# Altium integrated library Altera APEX 20KE.IntLib: 235 symbols (part 6 of 49)
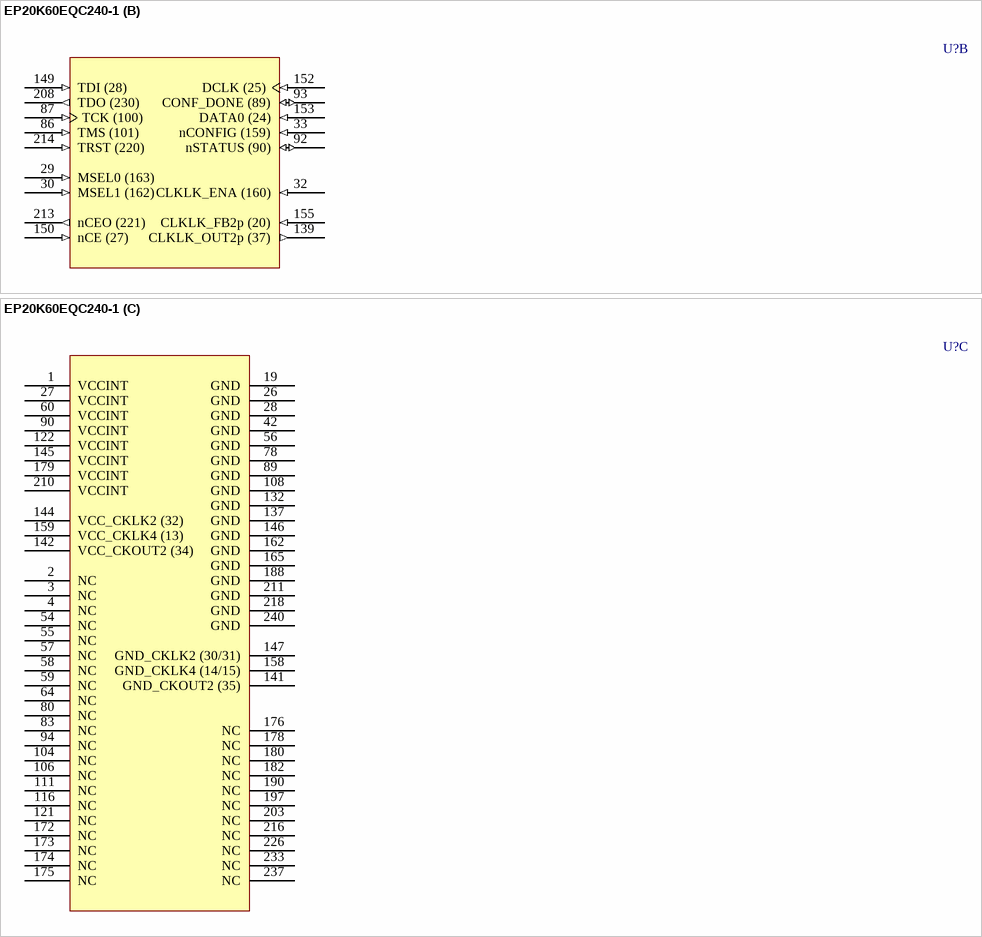
[diagram p404: symbol EP20K60EQC240-1]

## EP20K60EQC240-1
designator U?
APEX 20K60E PLD, 240-Pin PQFP, Commercial Grade, Speed Grade 1; Published: 17-Jul-2002; LatestRevisionDate: 13-Apr-2006; LatestRevisionNote: IPC-7351 Footprint Added.; DatasheetVersion: Mar-2004; PackageVersion: ver15.4, Dec-2008; PackageReference: PQFP240; Publisher: Altium Limited; PackageDescription: 240-Pin Plastic Quad Flat Pack (PQFP240) - Wire Bond; Supplier 1: Digi-Key; Supplier Part Number 1: EP20K60EQC240-1-ND; Code_JEDEC: MS-029-GA; ComponentLink1Description: Manufacturer Link; ComponentLink1URL: http://www.altera.com/products/devices/apex/apx-index.html; ComponentLink2Description: Datasheet; ComponentLink2URL: http://www.altera.com/literature/ds/apex.pdf
footprint PQFP240_N (Shrink QFP, 240-Leads, Body 32x32mm, Pitch 0.5mm, IPC Medium Density)
footprint PQFP240_L (Shrink QFP, 240-Leads, Body 32x32mm, Pitch 0.5mm, IPC High Density)
footprint PQFP240_M (Shrink QFP, 240-Leads, Body 32x32mm, Pitch 0.5mm, IPC Low Density)
3D model EP20K60E-PQFP240 (240-Pin Plastic Quad Flat Pack (PQFP240) - Wire Bond)
part A pins: 5 IO (185) (io), 6 IO (184) (io), 7 IO (183) (io), 8 IO (182) (io), 9 IO (180) (io), 10 IO (179) (io), 11 IO (178) (io), 12 VCCIO3 (175) (power), 13 IO (177) (io), 14 IO (176) (io), 15 IO (174) (io), 16 IO (173) (io), 17 IO (172) (io), 18 IO (171) (io), 20 IO (170) (io), 21 IO (168) (io), 22 IO (167) (io), 23 IO (166) (io), 24 IO (165) (io), 25 IO (164) (io), 31 CLK1p (161) (in), 34 CLK3p (156) (in), 35 IO/CLK3n (155) (io), 36 IO (154) (io), 37 IO (153) (io), 38 IO (151) (io), 39 IO (150) (io), 40 IO (149) (io), 41 IO (148) (io), 43 IO (147) (io), 44 IO (145) (io), 45 VCCIO5 (112) (power), 46 IO (144) (io), 47 IO (143) (io), 48 IO (142) (io), 49 IO (141) (io), 50 IO (139) (io), 51 IO (138) (io), 52 IO (137) (io), 53 IO (136) (io), 61 IO (128) (io), 62 IO (127) (io), 63 IO (126) (io), 65 IO (124) (io), 66 IO (122) (io), 67 VCCIO4 (146) (power), 68 IO (121) (io), 69 IO (120) (io), 70 IO (118) (io), 71 IO (117) (io), 72 IO (116) (io), 73 IO (115) (io), 74 IO (114) (io), 75 IO (113) (io), 76 IO (111) (io), 77 IO (110) (io), 79 IO (109) (io), 81 IO (107) (io), 82 IO (105) (io), 84 IO (103) (io), 85 IO (102) (io), 88 FAST3 (99) (io), 91 FAST4 (91) (io), 95 IO (86) (io), 96 IO (85) (io), 97 VCCIO7 (44) (power), 98 IO (84) (io), 99 IO (83) (io), 100 IO (82) (io), 101 IO (81) (io), 102 IO (80) (io), 103 IO (79) (io), 105 IO (76) (io), 107 IO (74) (io), 109 IO (73) (io), 110 IO (72) (io), 112 IO (70) (io), 113 IO (69) (io), 114 IO (68) (io), 115 IO (66) (io), 117 IO (64) (io), 118 IO (63) (io), 119 IO (62) (io), 120 VCCIO7 (power), 123 IO (54) (io), 124 IO (53) (io), 125 IO (52) (io), 126 IO (51) (io), 127 IO (49) (io), 128 IO (48) (io), 129 IO (47) (io), 130 IO (46) (io), 131 IO (45) (io), 133 IO (43) (io), 134 IO (42) (io), 135 IO/LOCK4 (41) (io), 136 IO (40) (io), 138 IO/LOCK2 (39) (io), 140 IO/CLKLK_OUT2n (36) (io), 143 IO/DEV_OE (33) (io), 148 VCCIO6 (56) (power), 151 CLK2p (26) (in), 154 CLK4p (22) (in), 156 IO/DEV_CLRn (17) (io), 157 IO/CS (16) (io), 160 IO/nCS (12) (io), 161 IO/nRS (10) (io), 163 IO (9) (io), 164 IO/nWS (8) (io), 166 IO/DATA7 (7) (io), 167 IO (6) (io), 168 IO (4) (io), 169 IO/DATA6 (3) (io), 170 IO (2) (io), 171 IO (1) (io), 177 VCCIO1 (228) (power), 181 IO/DATA5 (258) (io), 183 IO (256) (io), 184 IO (255) (io), 185 IO/DATA4 (254) (io), 186 IO (252) (io), 187 IO (251) (io), 189 IO/DATA3 (250) (io), 191 IO (248) (io), 192 IO (247) (io), 193 IO (246) (io), 194 IO (245) (io), 195 IO/DATA2 (244) (io), 196 IO (243) (io), 198 IO (240) (io), 199 VCCIO8 (11) (power), 200 IO/DATA1 (239) (io), 201 IO (238) (io), 202 IO (237) (io), 204 IO/CLKUSR (235) (io), 205 IO/RDYnBSY (234) (io), 206 IO/INIT_DONE (233) (io), 207 IO (232) (io), 209 FAST2 (229) (io), 212 FAST1 (222) (io), 215 IO (218) (io), 217 IO (216) (io), 219 IO (215) (io), 220 IO (214) (io), 221 IO (212) (io), 222 IO (211) (io), 223 IO (210) (io), 224 IO (209) (io), 225 IO (207) (io), 227 IO (205) (io), 228 IO (203) (io), 229 VCCIO2 (197) (power), 230 IO (202) (io), 231 IO (201) (io), 232 IO (200) (io), 234 IO (198) (io), 235 IO (196) (io), 236 IO (195) (io), 238 IO (193) (io), 239 IO (192) (io)
part B pins: 29 MSEL0 (163) (in), 30 MSEL1 (162) (in), 32 CLKLK_ENA (160) (in), 33 nCONFIG (159) (in), 86 TMS (101) (in), 87 TCK (100) (in), 92 nSTATUS (90) (io), 93 CONF_DONE (89) (io), 139 CLKLK_OUT2p (37) (out), 149 TDI (28) (in), 150 nCE (27) (in), 152 DCLK (25) (in), 153 DATA0 (24) (in), 155 CLKLK_FB2p (20) (in), 208 TDO (230) (out), 213 nCEO (221) (out), 214 TRST (220) (in)
part C pins: 1 VCCINT (power), 2 NC, 3 NC, 4 NC, 19 GND (power), 26 GND (power), 27 VCCINT (power), 28 GND (power), 42 GND (power), 54 NC, 55 NC, 56 GND (power), 57 NC, 58 NC, 59 NC, 60 VCCINT (power), 64 NC, 78 GND (power), 80 NC, 83 NC, 89 GND (power), 90 VCCINT (power), 94 NC, 104 NC, 106 NC, 108 GND (power), 111 NC, 116 NC, 121 NC, 122 VCCINT (power), 132 GND (power), 137 GND (power), 141 GND_CKOUT2 (35) (power), 142 VCC_CKOUT2 (34) (power), 144 VCC_CKLK2 (32) (power), 145 VCCINT (power), 146 GND (power), 147 GND_CKLK2 (30/31) (power), 158 GND_CKLK4 (14/15) (power), 159 VCC_CKLK4 (13) (power), 162 GND (power), 165 GND (power), 172 NC, 173 NC, 174 NC, 175 NC, 176 NC, 178 NC, 179 VCCINT (power), 180 NC, 182 NC, 188 GND (power), 190 NC, 197 NC, 203 NC, 210 VCCINT (power), 211 GND (power), 216 NC, 218 GND (power), 226 NC, 233 NC, 237 NC, 240 GND (power)

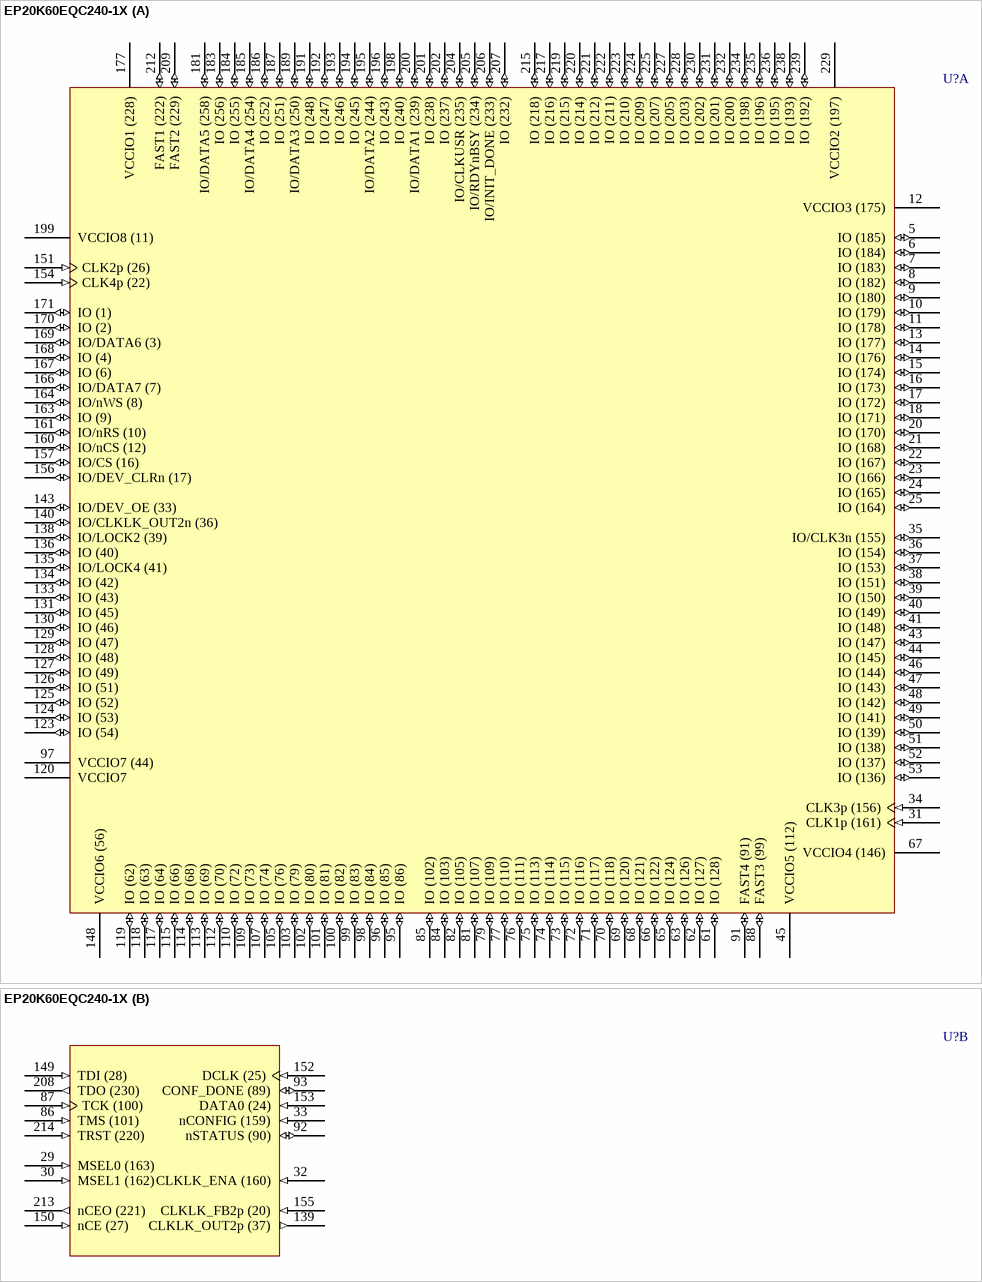
[diagram p54: symbol EP20K60EQC240-1X]

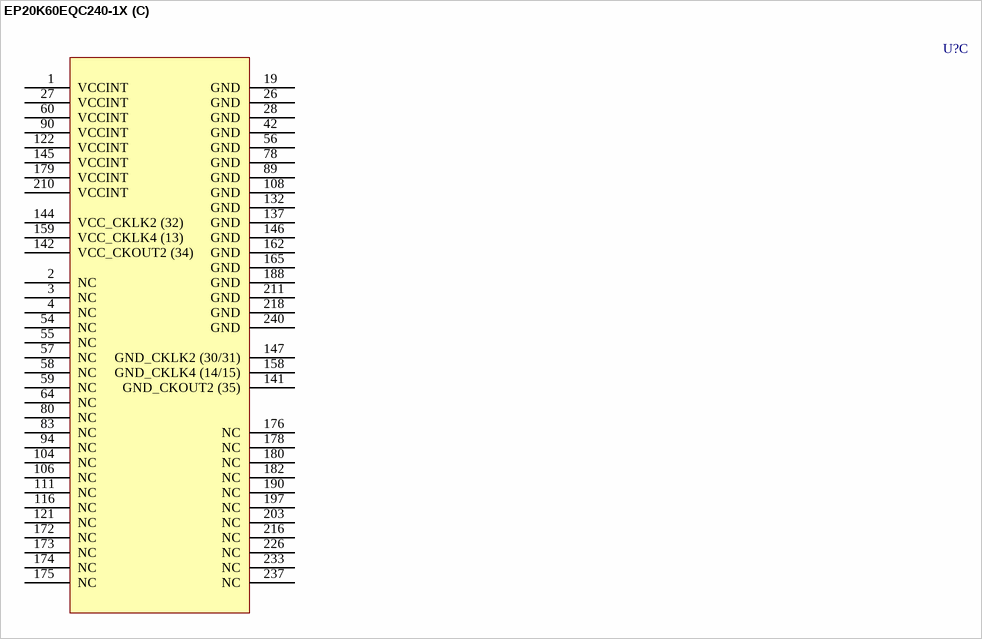
[diagram p55: symbol EP20K60EQC240-1X]

## EP20K60EQC240-1X
designator U?
APEX 20K60E PLD with PLLs and LVDS, 240-Pin PQFP, Commercial Grade, Speed Grade 1; Published: 17-Jul-2002; LatestRevisionDate: 13-Apr-2006; LatestRevisionNote: IPC-7351 Footprint Added.; DatasheetVersion: Mar-2004; PackageVersion: ver15.4, Dec-2008; PackageReference: PQFP240; Publisher: Altium Limited; PackageDescription: 240-Pin Plastic Quad Flat Pack (PQFP240) - Wire Bond; Code_JEDEC: MS-029-GA; ComponentLink1Description: Manufacturer Link; ComponentLink1URL: http://www.altera.com/products/devices/apex/apx-index.html; ComponentLink2Description: Datasheet; ComponentLink2URL: http://www.altera.com/literature/ds/apex.pdf
footprint PQFP240_N (Shrink QFP, 240-Leads, Body 32x32mm, Pitch 0.5mm, IPC Medium Density)
footprint PQFP240_L (Shrink QFP, 240-Leads, Body 32x32mm, Pitch 0.5mm, IPC High Density)
footprint PQFP240_M (Shrink QFP, 240-Leads, Body 32x32mm, Pitch 0.5mm, IPC Low Density)
3D model EP20K60E-PQFP240 (240-Pin Plastic Quad Flat Pack (PQFP240) - Wire Bond)
part A pins: 5 IO (185) (io), 6 IO (184) (io), 7 IO (183) (io), 8 IO (182) (io), 9 IO (180) (io), 10 IO (179) (io), 11 IO (178) (io), 12 VCCIO3 (175) (power), 13 IO (177) (io), 14 IO (176) (io), 15 IO (174) (io), 16 IO (173) (io), 17 IO (172) (io), 18 IO (171) (io), 20 IO (170) (io), 21 IO (168) (io), 22 IO (167) (io), 23 IO (166) (io), 24 IO (165) (io), 25 IO (164) (io), 31 CLK1p (161) (in), 34 CLK3p (156) (in), 35 IO/CLK3n (155) (io), 36 IO (154) (io), 37 IO (153) (io), 38 IO (151) (io), 39 IO (150) (io), 40 IO (149) (io), 41 IO (148) (io), 43 IO (147) (io), 44 IO (145) (io), 45 VCCIO5 (112) (power), 46 IO (144) (io), 47 IO (143) (io), 48 IO (142) (io), 49 IO (141) (io), 50 IO (139) (io), 51 IO (138) (io), 52 IO (137) (io), 53 IO (136) (io), 61 IO (128) (io), 62 IO (127) (io), 63 IO (126) (io), 65 IO (124) (io), 66 IO (122) (io), 67 VCCIO4 (146) (power), 68 IO (121) (io), 69 IO (120) (io), 70 IO (118) (io), 71 IO (117) (io), 72 IO (116) (io), 73 IO (115) (io), 74 IO (114) (io), 75 IO (113) (io), 76 IO (111) (io), 77 IO (110) (io), 79 IO (109) (io), 81 IO (107) (io), 82 IO (105) (io), 84 IO (103) (io), 85 IO (102) (io), 88 FAST3 (99) (io), 91 FAST4 (91) (io), 95 IO (86) (io), 96 IO (85) (io), 97 VCCIO7 (44) (power), 98 IO (84) (io), 99 IO (83) (io), 100 IO (82) (io), 101 IO (81) (io), 102 IO (80) (io), 103 IO (79) (io), 105 IO (76) (io), 107 IO (74) (io), 109 IO (73) (io), 110 IO (72) (io), 112 IO (70) (io), 113 IO (69) (io), 114 IO (68) (io), 115 IO (66) (io), 117 IO (64) (io), 118 IO (63) (io), 119 IO (62) (io), 120 VCCIO7 (power), 123 IO (54) (io), 124 IO (53) (io), 125 IO (52) (io), 126 IO (51) (io), 127 IO (49) (io), 128 IO (48) (io), 129 IO (47) (io), 130 IO (46) (io), 131 IO (45) (io), 133 IO (43) (io), 134 IO (42) (io), 135 IO/LOCK4 (41) (io), 136 IO (40) (io), 138 IO/LOCK2 (39) (io), 140 IO/CLKLK_OUT2n (36) (io), 143 IO/DEV_OE (33) (io), 148 VCCIO6 (56) (power), 151 CLK2p (26) (in), 154 CLK4p (22) (in), 156 IO/DEV_CLRn (17) (io), 157 IO/CS (16) (io), 160 IO/nCS (12) (io), 161 IO/nRS (10) (io), 163 IO (9) (io), 164 IO/nWS (8) (io), 166 IO/DATA7 (7) (io), 167 IO (6) (io), 168 IO (4) (io), 169 IO/DATA6 (3) (io), 170 IO (2) (io), 171 IO (1) (io), 177 VCCIO1 (228) (power), 181 IO/DATA5 (258) (io), 183 IO (256) (io), 184 IO (255) (io), 185 IO/DATA4 (254) (io), 186 IO (252) (io), 187 IO (251) (io), 189 IO/DATA3 (250) (io), 191 IO (248) (io), 192 IO (247) (io), 193 IO (246) (io), 194 IO (245) (io), 195 IO/DATA2 (244) (io), 196 IO (243) (io), 198 IO (240) (io), 199 VCCIO8 (11) (power), 200 IO/DATA1 (239) (io), 201 IO (238) (io), 202 IO (237) (io), 204 IO/CLKUSR (235) (io), 205 IO/RDYnBSY (234) (io), 206 IO/INIT_DONE (233) (io), 207 IO (232) (io), 209 FAST2 (229) (io), 212 FAST1 (222) (io), 215 IO (218) (io), 217 IO (216) (io), 219 IO (215) (io), 220 IO (214) (io), 221 IO (212) (io), 222 IO (211) (io), 223 IO (210) (io), 224 IO (209) (io), 225 IO (207) (io), 227 IO (205) (io), 228 IO (203) (io), 229 VCCIO2 (197) (power), 230 IO (202) (io), 231 IO (201) (io), 232 IO (200) (io), 234 IO (198) (io), 235 IO (196) (io), 236 IO (195) (io), 238 IO (193) (io), 239 IO (192) (io)
part B pins: 29 MSEL0 (163) (in), 30 MSEL1 (162) (in), 32 CLKLK_ENA (160) (in), 33 nCONFIG (159) (in), 86 TMS (101) (in), 87 TCK (100) (in), 92 nSTATUS (90) (io), 93 CONF_DONE (89) (io), 139 CLKLK_OUT2p (37) (out), 149 TDI (28) (in), 150 nCE (27) (in), 152 DCLK (25) (in), 153 DATA0 (24) (in), 155 CLKLK_FB2p (20) (in), 208 TDO (230) (out), 213 nCEO (221) (out), 214 TRST (220) (in)
part C pins: 1 VCCINT (power), 2 NC, 3 NC, 4 NC, 19 GND (power), 26 GND (power), 27 VCCINT (power), 28 GND (power), 42 GND (power), 54 NC, 55 NC, 56 GND (power), 57 NC, 58 NC, 59 NC, 60 VCCINT (power), 64 NC, 78 GND (power), 80 NC, 83 NC, 89 GND (power), 90 VCCINT (power), 94 NC, 104 NC, 106 NC, 108 GND (power), 111 NC, 116 NC, 121 NC, 122 VCCINT (power), 132 GND (power), 137 GND (power), 141 GND_CKOUT2 (35) (power), 142 VCC_CKOUT2 (34) (power), 144 VCC_CKLK2 (32) (power), 145 VCCINT (power), 146 GND (power), 147 GND_CKLK2 (30/31) (power), 158 GND_CKLK4 (14/15) (power), 159 VCC_CKLK4 (13) (power), 162 GND (power), 165 GND (power), 172 NC, 173 NC, 174 NC, 175 NC, 176 NC, 178 NC, 179 VCCINT (power), 180 NC, 182 NC, 188 GND (power), 190 NC, 197 NC, 203 NC, 210 VCCINT (power), 211 GND (power), 216 NC, 218 GND (power), 226 NC, 233 NC, 237 NC, 240 GND (power)

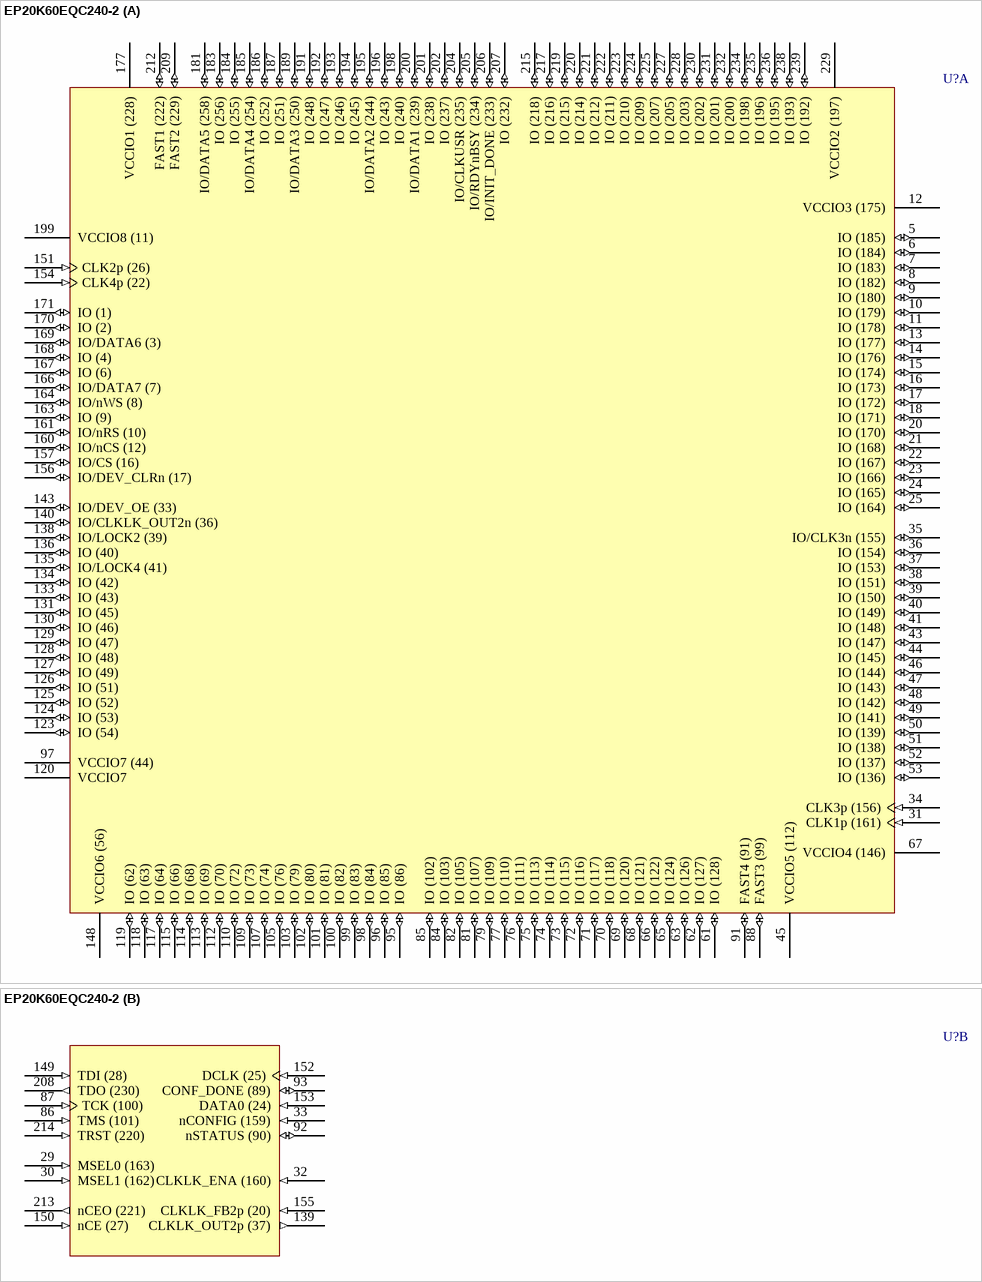
[diagram p56: symbol EP20K60EQC240-2]

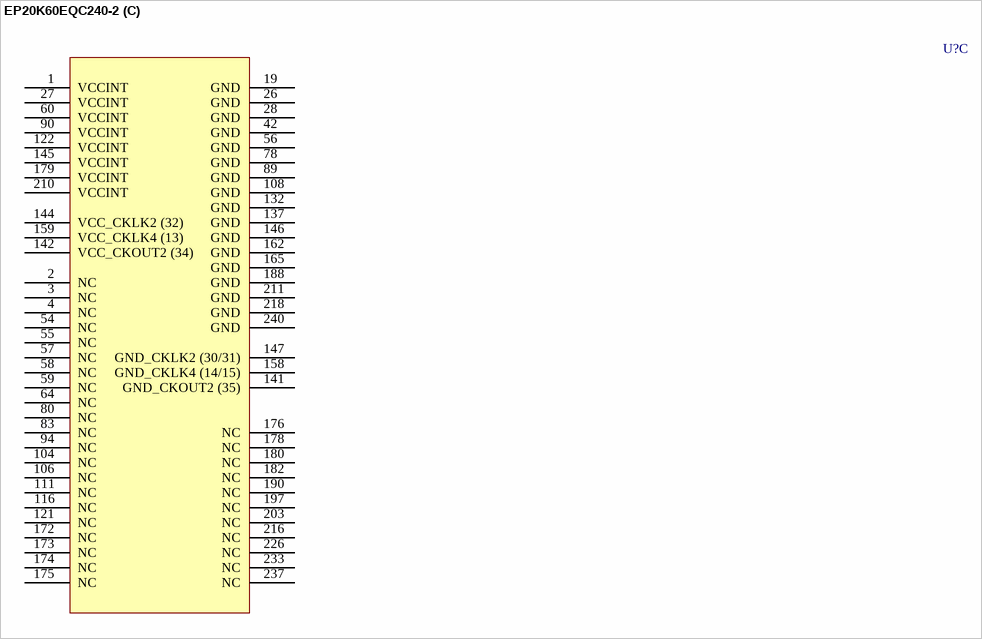
[diagram p57: symbol EP20K60EQC240-2]

## EP20K60EQC240-2
designator U?
APEX 20K60E PLD, 240-Pin PQFP, Commercial Grade, Speed Grade 2; Published: 17-Jul-2002; LatestRevisionDate: 13-Apr-2006; LatestRevisionNote: IPC-7351 Footprint Added.; DatasheetVersion: Mar-2004; PackageVersion: ver15.4, Dec-2008; PackageReference: PQFP240; Publisher: Altium Limited; PackageDescription: 240-Pin Plastic Quad Flat Pack (PQFP240) - Wire Bond; Code_JEDEC: MS-029-GA; ComponentLink1Description: Manufacturer Link; ComponentLink1URL: http://www.altera.com/products/devices/apex/apx-index.html; ComponentLink2Description: Datasheet; ComponentLink2URL: http://www.altera.com/literature/ds/apex.pdf
footprint PQFP240_N (Shrink QFP, 240-Leads, Body 32x32mm, Pitch 0.5mm, IPC Medium Density)
footprint PQFP240_L (Shrink QFP, 240-Leads, Body 32x32mm, Pitch 0.5mm, IPC High Density)
footprint PQFP240_M (Shrink QFP, 240-Leads, Body 32x32mm, Pitch 0.5mm, IPC Low Density)
3D model EP20K60E-PQFP240 (240-Pin Plastic Quad Flat Pack (PQFP240) - Wire Bond)
part A pins: 5 IO (185) (io), 6 IO (184) (io), 7 IO (183) (io), 8 IO (182) (io), 9 IO (180) (io), 10 IO (179) (io), 11 IO (178) (io), 12 VCCIO3 (175) (power), 13 IO (177) (io), 14 IO (176) (io), 15 IO (174) (io), 16 IO (173) (io), 17 IO (172) (io), 18 IO (171) (io), 20 IO (170) (io), 21 IO (168) (io), 22 IO (167) (io), 23 IO (166) (io), 24 IO (165) (io), 25 IO (164) (io), 31 CLK1p (161) (in), 34 CLK3p (156) (in), 35 IO/CLK3n (155) (io), 36 IO (154) (io), 37 IO (153) (io), 38 IO (151) (io), 39 IO (150) (io), 40 IO (149) (io), 41 IO (148) (io), 43 IO (147) (io), 44 IO (145) (io), 45 VCCIO5 (112) (power), 46 IO (144) (io), 47 IO (143) (io), 48 IO (142) (io), 49 IO (141) (io), 50 IO (139) (io), 51 IO (138) (io), 52 IO (137) (io), 53 IO (136) (io), 61 IO (128) (io), 62 IO (127) (io), 63 IO (126) (io), 65 IO (124) (io), 66 IO (122) (io), 67 VCCIO4 (146) (power), 68 IO (121) (io), 69 IO (120) (io), 70 IO (118) (io), 71 IO (117) (io), 72 IO (116) (io), 73 IO (115) (io), 74 IO (114) (io), 75 IO (113) (io), 76 IO (111) (io), 77 IO (110) (io), 79 IO (109) (io), 81 IO (107) (io), 82 IO (105) (io), 84 IO (103) (io), 85 IO (102) (io), 88 FAST3 (99) (io), 91 FAST4 (91) (io), 95 IO (86) (io), 96 IO (85) (io), 97 VCCIO7 (44) (power), 98 IO (84) (io), 99 IO (83) (io), 100 IO (82) (io), 101 IO (81) (io), 102 IO (80) (io), 103 IO (79) (io), 105 IO (76) (io), 107 IO (74) (io), 109 IO (73) (io), 110 IO (72) (io), 112 IO (70) (io), 113 IO (69) (io), 114 IO (68) (io), 115 IO (66) (io), 117 IO (64) (io), 118 IO (63) (io), 119 IO (62) (io), 120 VCCIO7 (power), 123 IO (54) (io), 124 IO (53) (io), 125 IO (52) (io), 126 IO (51) (io), 127 IO (49) (io), 128 IO (48) (io), 129 IO (47) (io), 130 IO (46) (io), 131 IO (45) (io), 133 IO (43) (io), 134 IO (42) (io), 135 IO/LOCK4 (41) (io), 136 IO (40) (io), 138 IO/LOCK2 (39) (io), 140 IO/CLKLK_OUT2n (36) (io), 143 IO/DEV_OE (33) (io), 148 VCCIO6 (56) (power), 151 CLK2p (26) (in), 154 CLK4p (22) (in), 156 IO/DEV_CLRn (17) (io), 157 IO/CS (16) (io), 160 IO/nCS (12) (io), 161 IO/nRS (10) (io), 163 IO (9) (io), 164 IO/nWS (8) (io), 166 IO/DATA7 (7) (io), 167 IO (6) (io), 168 IO (4) (io), 169 IO/DATA6 (3) (io), 170 IO (2) (io), 171 IO (1) (io), 177 VCCIO1 (228) (power), 181 IO/DATA5 (258) (io), 183 IO (256) (io), 184 IO (255) (io), 185 IO/DATA4 (254) (io), 186 IO (252) (io), 187 IO (251) (io), 189 IO/DATA3 (250) (io), 191 IO (248) (io), 192 IO (247) (io), 193 IO (246) (io), 194 IO (245) (io), 195 IO/DATA2 (244) (io), 196 IO (243) (io), 198 IO (240) (io), 199 VCCIO8 (11) (power), 200 IO/DATA1 (239) (io), 201 IO (238) (io), 202 IO (237) (io), 204 IO/CLKUSR (235) (io), 205 IO/RDYnBSY (234) (io), 206 IO/INIT_DONE (233) (io), 207 IO (232) (io), 209 FAST2 (229) (io), 212 FAST1 (222) (io), 215 IO (218) (io), 217 IO (216) (io), 219 IO (215) (io), 220 IO (214) (io), 221 IO (212) (io), 222 IO (211) (io), 223 IO (210) (io), 224 IO (209) (io), 225 IO (207) (io), 227 IO (205) (io), 228 IO (203) (io), 229 VCCIO2 (197) (power), 230 IO (202) (io), 231 IO (201) (io), 232 IO (200) (io), 234 IO (198) (io), 235 IO (196) (io), 236 IO (195) (io), 238 IO (193) (io), 239 IO (192) (io)
part B pins: 29 MSEL0 (163) (in), 30 MSEL1 (162) (in), 32 CLKLK_ENA (160) (in), 33 nCONFIG (159) (in), 86 TMS (101) (in), 87 TCK (100) (in), 92 nSTATUS (90) (io), 93 CONF_DONE (89) (io), 139 CLKLK_OUT2p (37) (out), 149 TDI (28) (in), 150 nCE (27) (in), 152 DCLK (25) (in), 153 DATA0 (24) (in), 155 CLKLK_FB2p (20) (in), 208 TDO (230) (out), 213 nCEO (221) (out), 214 TRST (220) (in)
part C pins: 1 VCCINT (power), 2 NC, 3 NC, 4 NC, 19 GND (power), 26 GND (power), 27 VCCINT (power), 28 GND (power), 42 GND (power), 54 NC, 55 NC, 56 GND (power), 57 NC, 58 NC, 59 NC, 60 VCCINT (power), 64 NC, 78 GND (power), 80 NC, 83 NC, 89 GND (power), 90 VCCINT (power), 94 NC, 104 NC, 106 NC, 108 GND (power), 111 NC, 116 NC, 121 NC, 122 VCCINT (power), 132 GND (power), 137 GND (power), 141 GND_CKOUT2 (35) (power), 142 VCC_CKOUT2 (34) (power), 144 VCC_CKLK2 (32) (power), 145 VCCINT (power), 146 GND (power), 147 GND_CKLK2 (30/31) (power), 158 GND_CKLK4 (14/15) (power), 159 VCC_CKLK4 (13) (power), 162 GND (power), 165 GND (power), 172 NC, 173 NC, 174 NC, 175 NC, 176 NC, 178 NC, 179 VCCINT (power), 180 NC, 182 NC, 188 GND (power), 190 NC, 197 NC, 203 NC, 210 VCCINT (power), 211 GND (power), 216 NC, 218 GND (power), 226 NC, 233 NC, 237 NC, 240 GND (power)

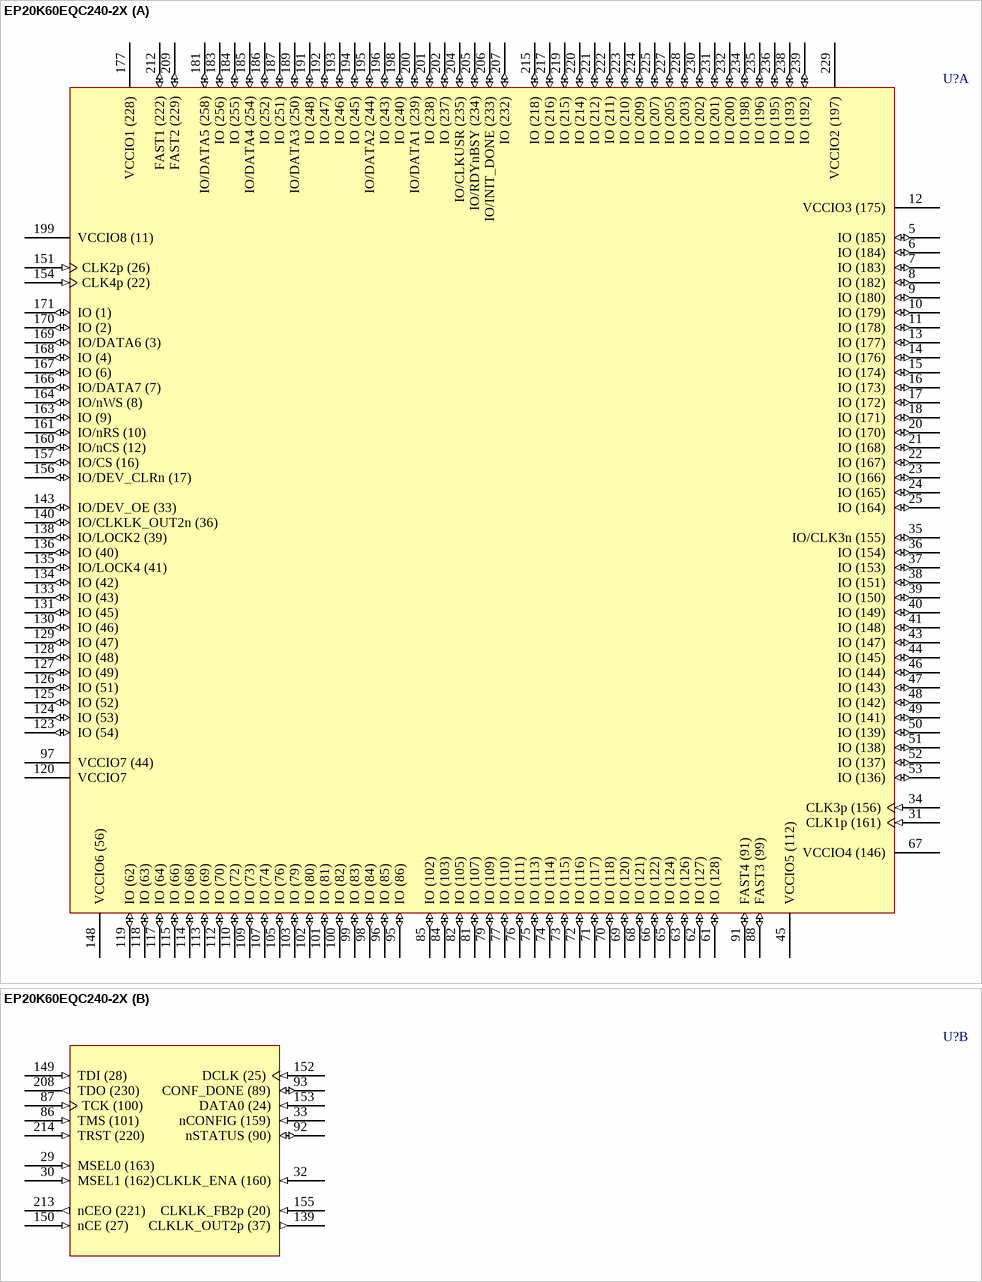
[diagram p58: symbol EP20K60EQC240-2X]

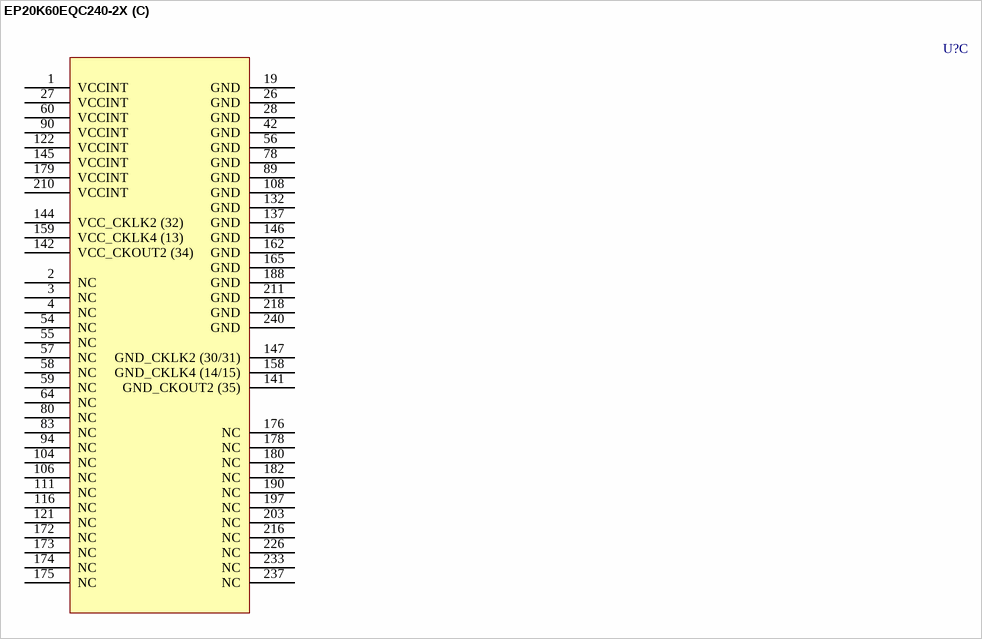
[diagram p59: symbol EP20K60EQC240-2X]

## EP20K60EQC240-2X
designator U?
APEX 20K60E PLD with PLLs and LVDS, 240-Pin PQFP, Commercial Grade, Speed Grade 2; Published: 17-Jul-2002; LatestRevisionDate: 13-Apr-2006; LatestRevisionNote: IPC-7351 Footprint Added.; DatasheetVersion: Mar-2004; PackageVersion: ver15.4, Dec-2008; PackageReference: PQFP240; Publisher: Altium Limited; PackageDescription: 240-Pin Plastic Quad Flat Pack (PQFP240) - Wire Bond; Code_JEDEC: MS-029-GA; ComponentLink1Description: Manufacturer Link; ComponentLink1URL: http://www.altera.com/products/devices/apex/apx-index.html; ComponentLink2Description: Datasheet; ComponentLink2URL: http://www.altera.com/literature/ds/apex.pdf
footprint PQFP240_N (Shrink QFP, 240-Leads, Body 32x32mm, Pitch 0.5mm, IPC Medium Density)
footprint PQFP240_L (Shrink QFP, 240-Leads, Body 32x32mm, Pitch 0.5mm, IPC High Density)
footprint PQFP240_M (Shrink QFP, 240-Leads, Body 32x32mm, Pitch 0.5mm, IPC Low Density)
3D model EP20K60E-PQFP240 (240-Pin Plastic Quad Flat Pack (PQFP240) - Wire Bond)
part A pins: 5 IO (185) (io), 6 IO (184) (io), 7 IO (183) (io), 8 IO (182) (io), 9 IO (180) (io), 10 IO (179) (io), 11 IO (178) (io), 12 VCCIO3 (175) (power), 13 IO (177) (io), 14 IO (176) (io), 15 IO (174) (io), 16 IO (173) (io), 17 IO (172) (io), 18 IO (171) (io), 20 IO (170) (io), 21 IO (168) (io), 22 IO (167) (io), 23 IO (166) (io), 24 IO (165) (io), 25 IO (164) (io), 31 CLK1p (161) (in), 34 CLK3p (156) (in), 35 IO/CLK3n (155) (io), 36 IO (154) (io), 37 IO (153) (io), 38 IO (151) (io), 39 IO (150) (io), 40 IO (149) (io), 41 IO (148) (io), 43 IO (147) (io), 44 IO (145) (io), 45 VCCIO5 (112) (power), 46 IO (144) (io), 47 IO (143) (io), 48 IO (142) (io), 49 IO (141) (io), 50 IO (139) (io), 51 IO (138) (io), 52 IO (137) (io), 53 IO (136) (io), 61 IO (128) (io), 62 IO (127) (io), 63 IO (126) (io), 65 IO (124) (io), 66 IO (122) (io), 67 VCCIO4 (146) (power), 68 IO (121) (io), 69 IO (120) (io), 70 IO (118) (io), 71 IO (117) (io), 72 IO (116) (io), 73 IO (115) (io), 74 IO (114) (io), 75 IO (113) (io), 76 IO (111) (io), 77 IO (110) (io), 79 IO (109) (io), 81 IO (107) (io), 82 IO (105) (io), 84 IO (103) (io), 85 IO (102) (io), 88 FAST3 (99) (io), 91 FAST4 (91) (io), 95 IO (86) (io), 96 IO (85) (io), 97 VCCIO7 (44) (power), 98 IO (84) (io), 99 IO (83) (io), 100 IO (82) (io), 101 IO (81) (io), 102 IO (80) (io), 103 IO (79) (io), 105 IO (76) (io), 107 IO (74) (io), 109 IO (73) (io), 110 IO (72) (io), 112 IO (70) (io), 113 IO (69) (io), 114 IO (68) (io), 115 IO (66) (io), 117 IO (64) (io), 118 IO (63) (io), 119 IO (62) (io), 120 VCCIO7 (power), 123 IO (54) (io), 124 IO (53) (io), 125 IO (52) (io), 126 IO (51) (io), 127 IO (49) (io), 128 IO (48) (io), 129 IO (47) (io), 130 IO (46) (io), 131 IO (45) (io), 133 IO (43) (io), 134 IO (42) (io), 135 IO/LOCK4 (41) (io), 136 IO (40) (io), 138 IO/LOCK2 (39) (io), 140 IO/CLKLK_OUT2n (36) (io), 143 IO/DEV_OE (33) (io), 148 VCCIO6 (56) (power), 151 CLK2p (26) (in), 154 CLK4p (22) (in), 156 IO/DEV_CLRn (17) (io), 157 IO/CS (16) (io), 160 IO/nCS (12) (io), 161 IO/nRS (10) (io), 163 IO (9) (io), 164 IO/nWS (8) (io), 166 IO/DATA7 (7) (io), 167 IO (6) (io), 168 IO (4) (io), 169 IO/DATA6 (3) (io), 170 IO (2) (io), 171 IO (1) (io), 177 VCCIO1 (228) (power), 181 IO/DATA5 (258) (io), 183 IO (256) (io), 184 IO (255) (io), 185 IO/DATA4 (254) (io), 186 IO (252) (io), 187 IO (251) (io), 189 IO/DATA3 (250) (io), 191 IO (248) (io), 192 IO (247) (io), 193 IO (246) (io), 194 IO (245) (io), 195 IO/DATA2 (244) (io), 196 IO (243) (io), 198 IO (240) (io), 199 VCCIO8 (11) (power), 200 IO/DATA1 (239) (io), 201 IO (238) (io), 202 IO (237) (io), 204 IO/CLKUSR (235) (io), 205 IO/RDYnBSY (234) (io), 206 IO/INIT_DONE (233) (io), 207 IO (232) (io), 209 FAST2 (229) (io), 212 FAST1 (222) (io), 215 IO (218) (io), 217 IO (216) (io), 219 IO (215) (io), 220 IO (214) (io), 221 IO (212) (io), 222 IO (211) (io), 223 IO (210) (io), 224 IO (209) (io), 225 IO (207) (io), 227 IO (205) (io), 228 IO (203) (io), 229 VCCIO2 (197) (power), 230 IO (202) (io), 231 IO (201) (io), 232 IO (200) (io), 234 IO (198) (io), 235 IO (196) (io), 236 IO (195) (io), 238 IO (193) (io), 239 IO (192) (io)
part B pins: 29 MSEL0 (163) (in), 30 MSEL1 (162) (in), 32 CLKLK_ENA (160) (in), 33 nCONFIG (159) (in), 86 TMS (101) (in), 87 TCK (100) (in), 92 nSTATUS (90) (io), 93 CONF_DONE (89) (io), 139 CLKLK_OUT2p (37) (out), 149 TDI (28) (in), 150 nCE (27) (in), 152 DCLK (25) (in), 153 DATA0 (24) (in), 155 CLKLK_FB2p (20) (in), 208 TDO (230) (out), 213 nCEO (221) (out), 214 TRST (220) (in)
part C pins: 1 VCCINT (power), 2 NC, 3 NC, 4 NC, 19 GND (power), 26 GND (power), 27 VCCINT (power), 28 GND (power), 42 GND (power), 54 NC, 55 NC, 56 GND (power), 57 NC, 58 NC, 59 NC, 60 VCCINT (power), 64 NC, 78 GND (power), 80 NC, 83 NC, 89 GND (power), 90 VCCINT (power), 94 NC, 104 NC, 106 NC, 108 GND (power), 111 NC, 116 NC, 121 NC, 122 VCCINT (power), 132 GND (power), 137 GND (power), 141 GND_CKOUT2 (35) (power), 142 VCC_CKOUT2 (34) (power), 144 VCC_CKLK2 (32) (power), 145 VCCINT (power), 146 GND (power), 147 GND_CKLK2 (30/31) (power), 158 GND_CKLK4 (14/15) (power), 159 VCC_CKLK4 (13) (power), 162 GND (power), 165 GND (power), 172 NC, 173 NC, 174 NC, 175 NC, 176 NC, 178 NC, 179 VCCINT (power), 180 NC, 182 NC, 188 GND (power), 190 NC, 197 NC, 203 NC, 210 VCCINT (power), 211 GND (power), 216 NC, 218 GND (power), 226 NC, 233 NC, 237 NC, 240 GND (power)

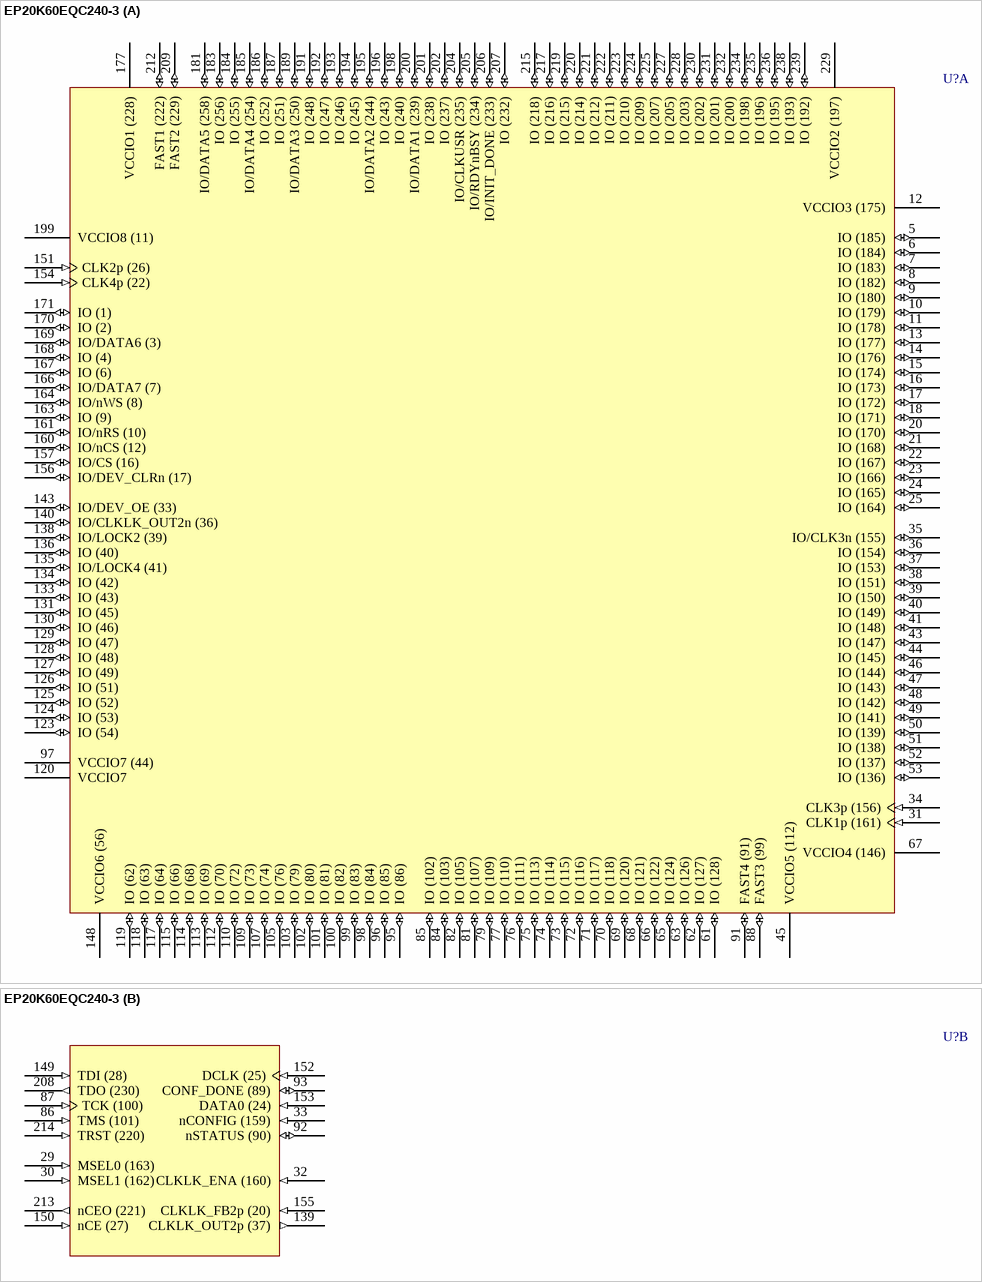
[diagram p60: symbol EP20K60EQC240-3]

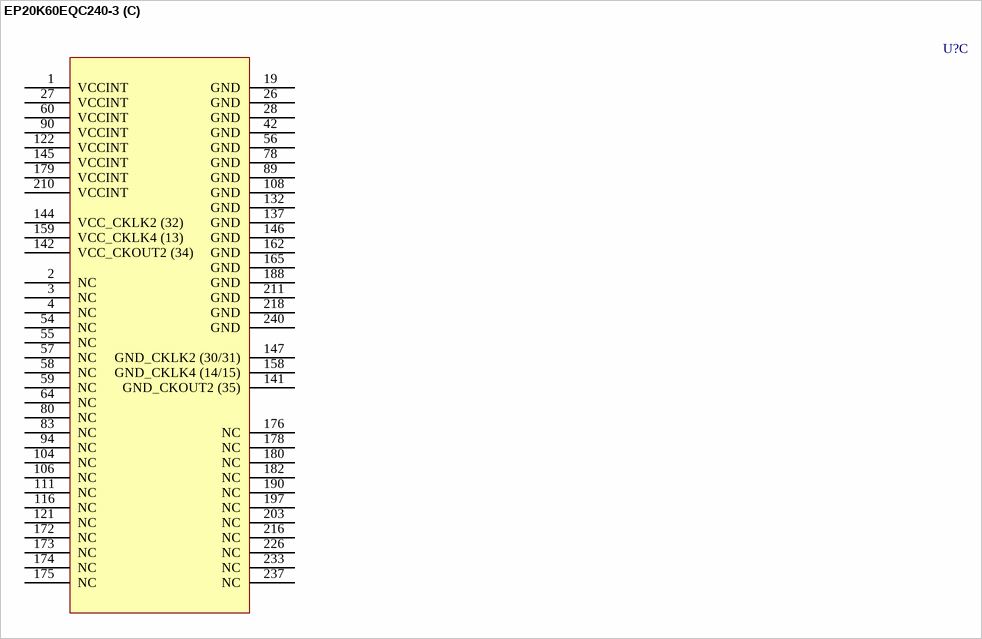
[diagram p61: symbol EP20K60EQC240-3]

## EP20K60EQC240-3
designator U?
APEX 20K60E PLD, 240-Pin PQFP, Commercial Grade, Speed Grade 3; Published: 17-Jul-2002; LatestRevisionDate: 13-Apr-2006; LatestRevisionNote: IPC-7351 Footprint Added.; DatasheetVersion: Mar-2004; PackageVersion: ver15.4, Dec-2008; PackageReference: PQFP240; Publisher: Altium Limited; PackageDescription: 240-Pin Plastic Quad Flat Pack (PQFP240) - Wire Bond; Code_JEDEC: MS-029-GA; ComponentLink1Description: Manufacturer Link; ComponentLink1URL: http://www.altera.com/products/devices/apex/apx-index.html; ComponentLink2Description: Datasheet; ComponentLink2URL: http://www.altera.com/literature/ds/apex.pdf
footprint PQFP240_N (Shrink QFP, 240-Leads, Body 32x32mm, Pitch 0.5mm, IPC Medium Density)
footprint PQFP240_L (Shrink QFP, 240-Leads, Body 32x32mm, Pitch 0.5mm, IPC High Density)
footprint PQFP240_M (Shrink QFP, 240-Leads, Body 32x32mm, Pitch 0.5mm, IPC Low Density)
3D model EP20K60E-PQFP240 (240-Pin Plastic Quad Flat Pack (PQFP240) - Wire Bond)
part A pins: 5 IO (185) (io), 6 IO (184) (io), 7 IO (183) (io), 8 IO (182) (io), 9 IO (180) (io), 10 IO (179) (io), 11 IO (178) (io), 12 VCCIO3 (175) (power), 13 IO (177) (io), 14 IO (176) (io), 15 IO (174) (io), 16 IO (173) (io), 17 IO (172) (io), 18 IO (171) (io), 20 IO (170) (io), 21 IO (168) (io), 22 IO (167) (io), 23 IO (166) (io), 24 IO (165) (io), 25 IO (164) (io), 31 CLK1p (161) (in), 34 CLK3p (156) (in), 35 IO/CLK3n (155) (io), 36 IO (154) (io), 37 IO (153) (io), 38 IO (151) (io), 39 IO (150) (io), 40 IO (149) (io), 41 IO (148) (io), 43 IO (147) (io), 44 IO (145) (io), 45 VCCIO5 (112) (power), 46 IO (144) (io), 47 IO (143) (io), 48 IO (142) (io), 49 IO (141) (io), 50 IO (139) (io), 51 IO (138) (io), 52 IO (137) (io), 53 IO (136) (io), 61 IO (128) (io), 62 IO (127) (io), 63 IO (126) (io), 65 IO (124) (io), 66 IO (122) (io), 67 VCCIO4 (146) (power), 68 IO (121) (io), 69 IO (120) (io), 70 IO (118) (io), 71 IO (117) (io), 72 IO (116) (io), 73 IO (115) (io), 74 IO (114) (io), 75 IO (113) (io), 76 IO (111) (io), 77 IO (110) (io), 79 IO (109) (io), 81 IO (107) (io), 82 IO (105) (io), 84 IO (103) (io), 85 IO (102) (io), 88 FAST3 (99) (io), 91 FAST4 (91) (io), 95 IO (86) (io), 96 IO (85) (io), 97 VCCIO7 (44) (power), 98 IO (84) (io), 99 IO (83) (io), 100 IO (82) (io), 101 IO (81) (io), 102 IO (80) (io), 103 IO (79) (io), 105 IO (76) (io), 107 IO (74) (io), 109 IO (73) (io), 110 IO (72) (io), 112 IO (70) (io), 113 IO (69) (io), 114 IO (68) (io), 115 IO (66) (io), 117 IO (64) (io), 118 IO (63) (io), 119 IO (62) (io), 120 VCCIO7 (power), 123 IO (54) (io), 124 IO (53) (io), 125 IO (52) (io), 126 IO (51) (io), 127 IO (49) (io), 128 IO (48) (io), 129 IO (47) (io), 130 IO (46) (io), 131 IO (45) (io), 133 IO (43) (io), 134 IO (42) (io), 135 IO/LOCK4 (41) (io), 136 IO (40) (io), 138 IO/LOCK2 (39) (io), 140 IO/CLKLK_OUT2n (36) (io), 143 IO/DEV_OE (33) (io), 148 VCCIO6 (56) (power), 151 CLK2p (26) (in), 154 CLK4p (22) (in), 156 IO/DEV_CLRn (17) (io), 157 IO/CS (16) (io), 160 IO/nCS (12) (io), 161 IO/nRS (10) (io), 163 IO (9) (io), 164 IO/nWS (8) (io), 166 IO/DATA7 (7) (io), 167 IO (6) (io), 168 IO (4) (io), 169 IO/DATA6 (3) (io), 170 IO (2) (io), 171 IO (1) (io), 177 VCCIO1 (228) (power), 181 IO/DATA5 (258) (io), 183 IO (256) (io), 184 IO (255) (io), 185 IO/DATA4 (254) (io), 186 IO (252) (io), 187 IO (251) (io), 189 IO/DATA3 (250) (io), 191 IO (248) (io), 192 IO (247) (io), 193 IO (246) (io), 194 IO (245) (io), 195 IO/DATA2 (244) (io), 196 IO (243) (io), 198 IO (240) (io), 199 VCCIO8 (11) (power), 200 IO/DATA1 (239) (io), 201 IO (238) (io), 202 IO (237) (io), 204 IO/CLKUSR (235) (io), 205 IO/RDYnBSY (234) (io), 206 IO/INIT_DONE (233) (io), 207 IO (232) (io), 209 FAST2 (229) (io), 212 FAST1 (222) (io), 215 IO (218) (io), 217 IO (216) (io), 219 IO (215) (io), 220 IO (214) (io), 221 IO (212) (io), 222 IO (211) (io), 223 IO (210) (io), 224 IO (209) (io), 225 IO (207) (io), 227 IO (205) (io), 228 IO (203) (io), 229 VCCIO2 (197) (power), 230 IO (202) (io), 231 IO (201) (io), 232 IO (200) (io), 234 IO (198) (io), 235 IO (196) (io), 236 IO (195) (io), 238 IO (193) (io), 239 IO (192) (io)
part B pins: 29 MSEL0 (163) (in), 30 MSEL1 (162) (in), 32 CLKLK_ENA (160) (in), 33 nCONFIG (159) (in), 86 TMS (101) (in), 87 TCK (100) (in), 92 nSTATUS (90) (io), 93 CONF_DONE (89) (io), 139 CLKLK_OUT2p (37) (out), 149 TDI (28) (in), 150 nCE (27) (in), 152 DCLK (25) (in), 153 DATA0 (24) (in), 155 CLKLK_FB2p (20) (in), 208 TDO (230) (out), 213 nCEO (221) (out), 214 TRST (220) (in)
part C pins: 1 VCCINT (power), 2 NC, 3 NC, 4 NC, 19 GND (power), 26 GND (power), 27 VCCINT (power), 28 GND (power), 42 GND (power), 54 NC, 55 NC, 56 GND (power), 57 NC, 58 NC, 59 NC, 60 VCCINT (power), 64 NC, 78 GND (power), 80 NC, 83 NC, 89 GND (power), 90 VCCINT (power), 94 NC, 104 NC, 106 NC, 108 GND (power), 111 NC, 116 NC, 121 NC, 122 VCCINT (power), 132 GND (power), 137 GND (power), 141 GND_CKOUT2 (35) (power), 142 VCC_CKOUT2 (34) (power), 144 VCC_CKLK2 (32) (power), 145 VCCINT (power), 146 GND (power), 147 GND_CKLK2 (30/31) (power), 158 GND_CKLK4 (14/15) (power), 159 VCC_CKLK4 (13) (power), 162 GND (power), 165 GND (power), 172 NC, 173 NC, 174 NC, 175 NC, 176 NC, 178 NC, 179 VCCINT (power), 180 NC, 182 NC, 188 GND (power), 190 NC, 197 NC, 203 NC, 210 VCCINT (power), 211 GND (power), 216 NC, 218 GND (power), 226 NC, 233 NC, 237 NC, 240 GND (power)

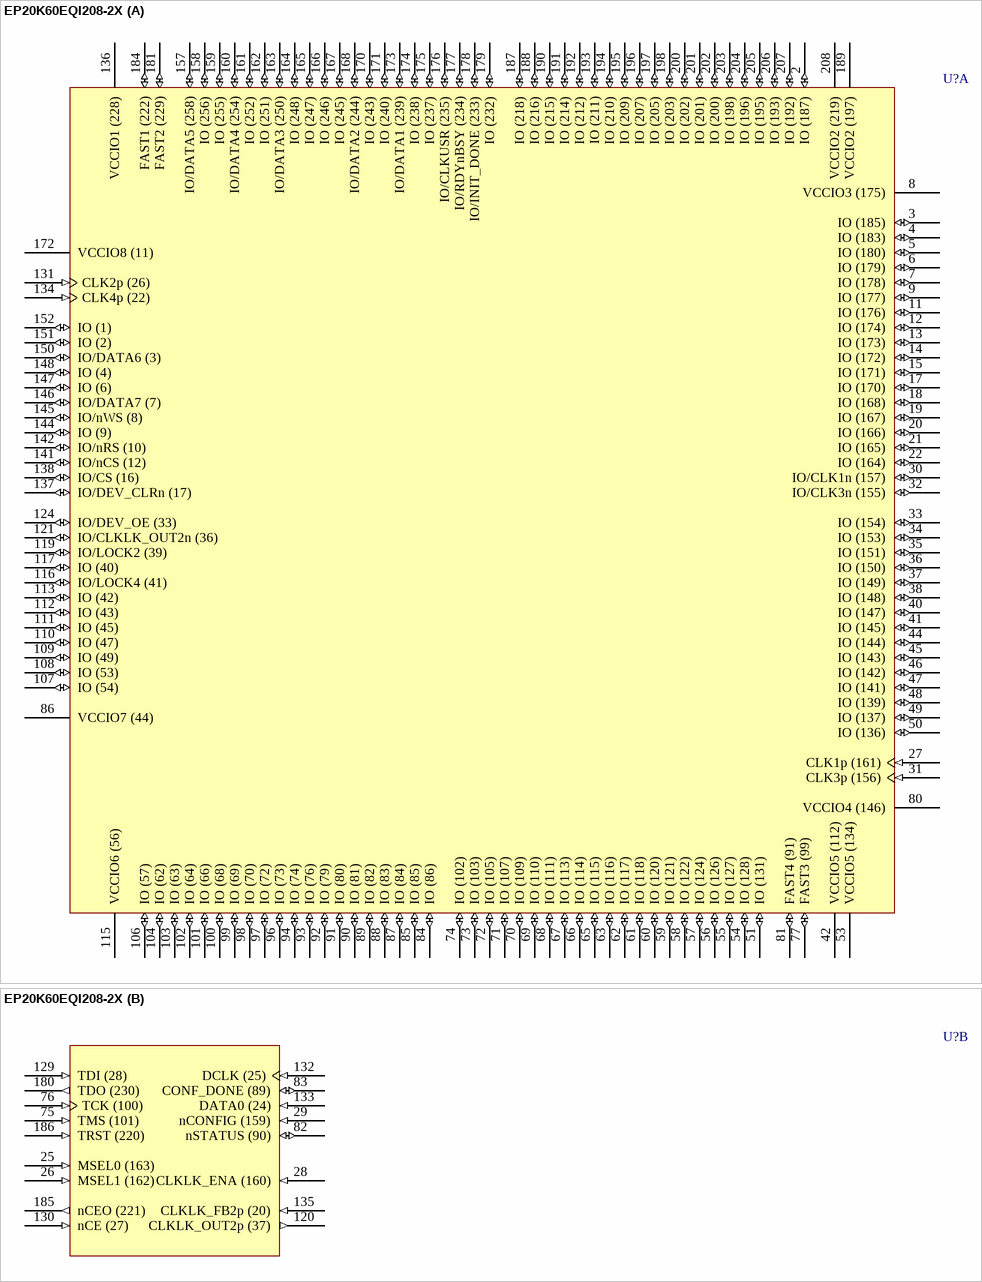
[diagram p62: symbol EP20K60EQI208-2X]

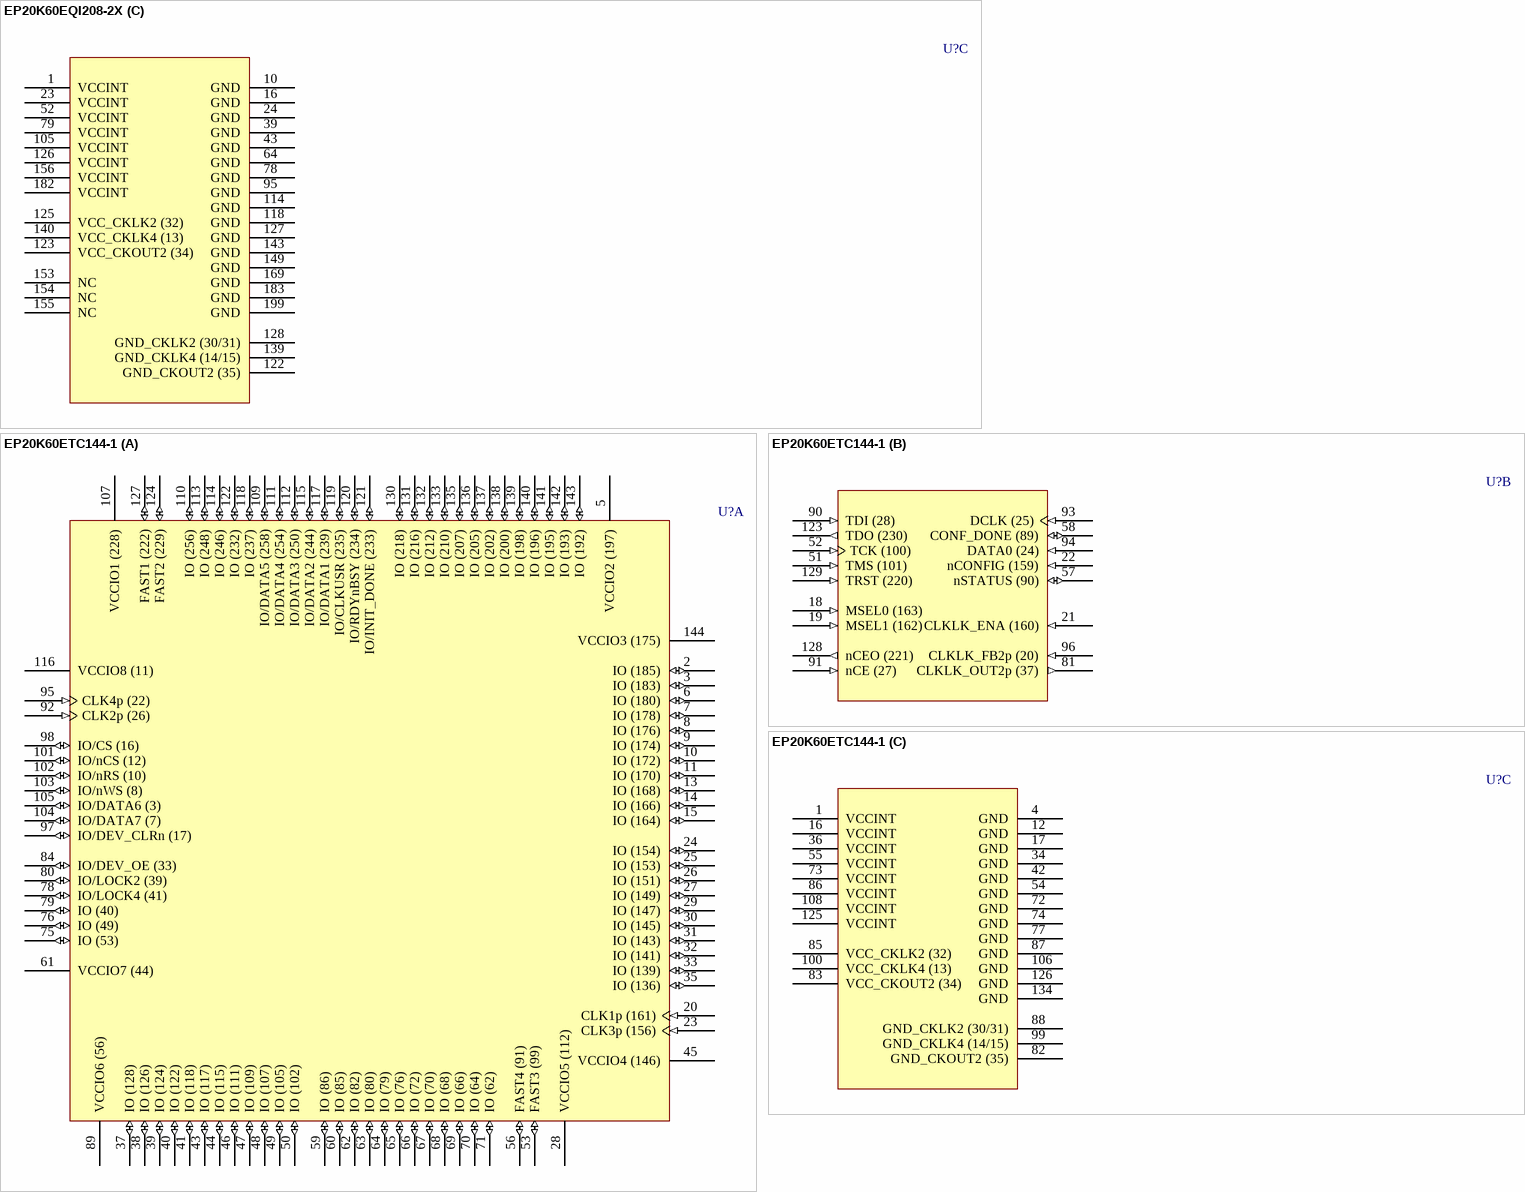
[diagram p63: symbols EP20K60EQI208-2X to EP20K60ETC144-1]

## EP20K60EQI208-2X
designator U?
APEX 20K60E PLD with PLLs and LVDS, 208-Pin PQFP, Industrial Grade, Speed Grade 2; Published: 17-Jul-2002; LatestRevisionDate: 13-Apr-2006; LatestRevisionNote: IPC-7351 Footprint Added.; DatasheetVersion: Mar-2004; PackageVersion: ver15.4, Dec-2008; PackageReference: PQFP208; Publisher: Altium Limited; PackageDescription: 208-Pin Plastic Quad Flat Pack (PQFP208) - Wire Bond; Code_JEDEC: MS-029-FA-1; ComponentLink1Description: Manufacturer Link; ComponentLink1URL: http://www.altera.com/products/devices/apex/apx-index.html; ComponentLink2Description: Datasheet; ComponentLink2URL: http://www.altera.com/literature/ds/apex.pdf; ComponentLink3Description: Discontinuation Notice; ComponentLink3URL: http://www.altera.com/literature/pcn/pdn0316.pdf
footprint PQFP208_N (Shrink QFP, 208-Leads, Body 28x28mm, Pitch 0.5mm, IPC Medium Density)
footprint PQFP208_L (Shrink QFP, 208-Leads, Body 28x28mm, Pitch 0.5mm, IPC High Density)
footprint PQFP208_M (Shrink QFP, 208-Leads, Body 28x28mm, Pitch 0.5mm, IPC Low Density)
3D model EP20K60E-PQFP208 (208-Pin Plastic Quad Flat Pack (PQFP208) - Wire Bond)
part A pins: 2 IO (187) (io), 3 IO (185) (io), 4 IO (183) (io), 5 IO (180) (io), 6 IO (179) (io), 7 IO (178) (io), 8 VCCIO3 (175) (power), 9 IO (177) (io), 11 IO (176) (io), 12 IO (174) (io), 13 IO (173) (io), 14 IO (172) (io), 15 IO (171) (io), 17 IO (170) (io), 18 IO (168) (io), 19 IO (167) (io), 20 IO (166) (io), 21 IO (165) (io), 22 IO (164) (io), 27 CLK1p (161) (in), 30 IO/CLK1n (157) (io), 31 CLK3p (156) (in), 32 IO/CLK3n (155) (io), 33 IO (154) (io), 34 IO (153) (io), 35 IO (151) (io), 36 IO (150) (io), 37 IO (149) (io), 38 IO (148) (io), 40 IO (147) (io), 41 IO (145) (io), 42 VCCIO5 (112) (power), 44 IO (144) (io), 45 IO (143) (io), 46 IO (142) (io), 47 IO (141) (io), 48 IO (139) (io), 49 IO (137) (io), 50 IO (136) (io), 51 IO (131) (io), 53 VCCIO5 (134) (power), 54 IO (128) (io), 55 IO (127) (io), 56 IO (126) (io), 57 IO (124) (io), 58 IO (122) (io), 59 IO (121) (io), 60 IO (120) (io), 61 IO (118) (io), 62 IO (117) (io), 63 IO (116) (io), 65 IO (115) (io), 66 IO (114) (io), 67 IO (113) (io), 68 IO (111) (io), 69 IO (110) (io), 70 IO (109) (io), 71 IO (107) (io), 72 IO (105) (io), 73 IO (103) (io), 74 IO (102) (io), 77 FAST3 (99) (io), 80 VCCIO4 (146) (power), 81 FAST4 (91) (io), 84 IO (86) (io), 85 IO (85) (io), 86 VCCIO7 (44) (power), 87 IO (84) (io), 88 IO (83) (io), 89 IO (82) (io), 90 IO (81) (io), 91 IO (80) (io), 92 IO (79) (io), 93 IO (76) (io), 94 IO (74) (io), 96 IO (73) (io), 97 IO (72) (io), 98 IO (70) (io), 99 IO (69) (io), 100 IO (68) (io), 101 IO (66) (io), 102 IO (64) (io), 103 IO (63) (io), 104 IO (62) (io), 106 IO (57) (io), 107 IO (54) (io), 108 IO (53) (io), 109 IO (49) (io), 110 IO (47) (io), 111 IO (45) (io), 112 IO (43) (io), 113 IO (42) (io), 115 VCCIO6 (56) (power), 116 IO/LOCK4 (41) (io), 117 IO (40) (io), 119 IO/LOCK2 (39) (io), 121 IO/CLKLK_OUT2n (36) (io), 124 IO/DEV_OE (33) (io), 131 CLK2p (26) (in), 134 CLK4p (22) (in), 136 VCCIO1 (228) (power), 137 IO/DEV_CLRn (17) (io), 138 IO/CS (16) (io), 141 IO/nCS (12) (io), 142 IO/nRS (10) (io), 144 IO (9) (io), 145 IO/nWS (8) (io), 146 IO/DATA7 (7) (io), 147 IO (6) (io), 148 IO (4) (io), 150 IO/DATA6 (3) (io), 151 IO (2) (io), 152 IO (1) (io), 157 IO/DATA5 (258) (io), 158 IO (256) (io), 159 IO (255) (io), 160 IO/DATA4 (254) (io), 161 IO (252) (io), 162 IO (251) (io), 163 IO/DATA3 (250) (io), 164 IO (248) (io), 165 IO (247) (io), 166 IO (246) (io), 167 IO (245) (io), 168 IO/DATA2 (244) (io), 170 IO (243) (io), 171 IO (240) (io), 172 VCCIO8 (11) (power), 173 IO/DATA1 (239) (io), 174 IO (238) (io), 175 IO (237) (io), 176 IO/CLKUSR (235) (io), 177 IO/RDYnBSY (234) (io), 178 IO/INIT_DONE (233) (io), 179 IO (232) (io), 181 FAST2 (229) (io), 184 FAST1 (222) (io), 187 IO (218) (io), 188 IO (216) (io), 189 VCCIO2 (197) (power), 190 IO (215) (io), 191 IO (214) (io), 192 IO (212) (io), 193 IO (211) (io), 194 IO (210) (io), 195 IO (209) (io), 196 IO (207) (io), 197 IO (205) (io), 198 IO (203) (io), 200 IO (202) (io), 201 IO (201) (io), 202 IO (200) (io), 203 IO (198) (io), 204 IO (196) (io), 205 IO (195) (io), 206 IO (193) (io), 207 IO (192) (io), 208 VCCIO2 (219) (power)
part B pins: 25 MSEL0 (163) (in), 26 MSEL1 (162) (in), 28 CLKLK_ENA (160) (in), 29 nCONFIG (159) (in), 75 TMS (101) (in), 76 TCK (100) (in), 82 nSTATUS (90) (io), 83 CONF_DONE (89) (io), 120 CLKLK_OUT2p (37) (out), 129 TDI (28) (in), 130 nCE (27) (in), 132 DCLK (25) (in), 133 DATA0 (24) (in), 135 CLKLK_FB2p (20) (in), 180 TDO (230) (out), 185 nCEO (221) (out), 186 TRST (220) (in)
part C pins: 1 VCCINT (power), 10 GND (power), 16 GND (power), 23 VCCINT (power), 24 GND (power), 39 GND (power), 43 GND (power), 52 VCCINT (power), 64 GND (power), 78 GND (power), 79 VCCINT (power), 95 GND (power), 105 VCCINT (power), 114 GND (power), 118 GND (power), 122 GND_CKOUT2 (35) (power), 123 VCC_CKOUT2 (34) (power), 125 VCC_CKLK2 (32) (power), 126 VCCINT (power), 127 GND (power), 128 GND_CKLK2 (30/31) (power), 139 GND_CKLK4 (14/15) (power), 140 VCC_CKLK4 (13) (power), 143 GND (power), 149 GND (power), 153 NC, 154 NC, 155 NC, 156 VCCINT (power), 169 GND (power), 182 VCCINT (power), 183 GND (power), 199 GND (power)

## EP20K60ETC144-1
designator U?
APEX 20K60E PLD, 144-Pin TQFP, Commercial Grade, Speed Grade 1; Published: 17-Jul-2002; LatestRevisionDate: 13-Apr-2006; LatestRevisionNote: IPC-7351 Footprint Added.; DatasheetVersion: Mar-2004; PackageVersion: ver15.4, Dec-2008; PackageReference: TQFP144; Publisher: Altium Limited; PackageDescription: 144-Pin Plastic Thin Quad Flat Pack (TQFP144) - Wire Bond; Code_JEDEC: MS-026-BFB; ComponentLink1Description: Manufacturer Link; ComponentLink1URL: http://www.altera.com/products/devices/apex/apx-index.html; ComponentLink2Description: Datasheet; ComponentLink2URL: http://www.altera.com/literature/ds/apex.pdf
footprint TQFP144_N (Thin QFP, 144-Leads, Body 20x20mm, Pitch 0.5mm, IPC Medium Density)
footprint TQFP144_L (Thin QFP, 144-Leads, Body 20x20mm, Pitch 0.5mm, IPC High Density)
footprint TQFP144_M (Thin QFP, 144-Leads, Body 20x20mm, Pitch 0.5mm, IPC Low Density)
3D model EP20K60E-TQFP144 (144-Pin Plastic Thin Quad Flat Pack (TQFP144) - Wire Bond)
part A pins: 2 IO (185) (io), 3 IO (183) (io), 5 VCCIO2 (197) (power), 6 IO (180) (io), 7 IO (178) (io), 8 IO (176) (io), 9 IO (174) (io), 10 IO (172) (io), 11 IO (170) (io), 13 IO (168) (io), 14 IO (166) (io), 15 IO (164) (io), 20 CLK1p (161) (in), 23 CLK3p (156) (in), 24 IO (154) (io), 25 IO (153) (io), 26 IO (151) (io), 27 IO (149) (io), 28 VCCIO5 (112) (power), 29 IO (147) (io), 30 IO (145) (io), 31 IO (143) (io), 32 IO (141) (io), 33 IO (139) (io), 35 IO (136) (io), 37 IO (128) (io), 38 IO (126) (io), 39 IO (124) (io), 40 IO (122) (io), 41 IO (118) (io), 43 IO (117) (io), 44 IO (115) (io), 45 VCCIO4 (146) (power), 46 IO (111) (io), 47 IO (109) (io), 48 IO (107) (io), 49 IO (105) (io), 50 IO (102) (io), 53 FAST3 (99) (io), 56 FAST4 (91) (io), 59 IO (86) (io), 60 IO (85) (io), 61 VCCIO7 (44) (power), 62 IO (82) (io), 63 IO (80) (io), 64 IO (79) (io), 65 IO (76) (io), 66 IO (72) (io), 67 IO (70) (io), 68 IO (68) (io), 69 IO (66) (io), 70 IO (64) (io), 71 IO (62) (io), 75 IO (53) (io), 76 IO (49) (io), 78 IO/LOCK4 (41) (io), 79 IO (40) (io), 80 IO/LOCK2 (39) (io), 84 IO/DEV_OE (33) (io), 89 VCCIO6 (56) (power), 92 CLK2p (26) (in), 95 CLK4p (22) (in), 97 IO/DEV_CLRn (17) (io), 98 IO/CS (16) (io), 101 IO/nCS (12) (io), 102 IO/nRS (10) (io), 103 IO/nWS (8) (io), 104 IO/DATA7 (7) (io), 105 IO/DATA6 (3) (io), 107 VCCIO1 (228) (power), 109 IO/DATA5 (258) (io), 110 IO (256) (io), 111 IO/DATA4 (254) (io), 112 IO/DATA3 (250) (io), 113 IO (248) (io), 114 IO (246) (io), 115 IO/DATA2 (244) (io), 116 VCCIO8 (11) (power), 117 IO/DATA1 (239) (io), 118 IO (237) (io), 119 IO/CLKUSR (235) (io), 120 IO/RDYnBSY (234) (io), 121 IO/INIT_DONE (233) (io), 122 IO (232) (io), 124 FAST2 (229) (io), 127 FAST1 (222) (io), 130 IO (218) (io), 131 IO (216) (io), 132 IO (212) (io), 133 IO (210) (io), 135 IO (207) (io), 136 IO (205) (io), 137 IO (202) (io), 138 IO (200) (io), 139 IO (198) (io), 140 IO (196) (io), 141 IO (195) (io), 142 IO (193) (io), 143 IO (192) (io), 144 VCCIO3 (175) (power)
part B pins: 18 MSEL0 (163) (in), 19 MSEL1 (162) (in), 21 CLKLK_ENA (160) (in), 22 nCONFIG (159) (in), 51 TMS (101) (in), 52 TCK (100) (in), 57 nSTATUS (90) (io), 58 CONF_DONE (89) (io), 81 CLKLK_OUT2p (37) (out), 90 TDI (28) (in), 91 nCE (27) (in), 93 DCLK (25) (in), 94 DATA0 (24) (in), 96 CLKLK_FB2p (20) (in), 123 TDO (230) (out), 128 nCEO (221) (out), 129 TRST (220) (in)
part C pins: 1 VCCINT (power), 4 GND (power), 12 GND (power), 16 VCCINT (power), 17 GND (power), 34 GND (power), 36 VCCINT (power), 42 GND (power), 54 GND (power), 55 VCCINT (power), 72 GND (power), 73 VCCINT (power), 74 GND (power), 77 GND (power), 82 GND_CKOUT2 (35) (power), 83 VCC_CKOUT2 (34) (power), 85 VCC_CKLK2 (32) (power), 86 VCCINT (power), 87 GND (power), 88 GND_CKLK2 (30/31) (power), 99 GND_CKLK4 (14/15) (power), 100 VCC_CKLK4 (13) (power), 106 GND (power), 108 VCCINT (power), 125 VCCINT (power), 126 GND (power), 134 GND (power)

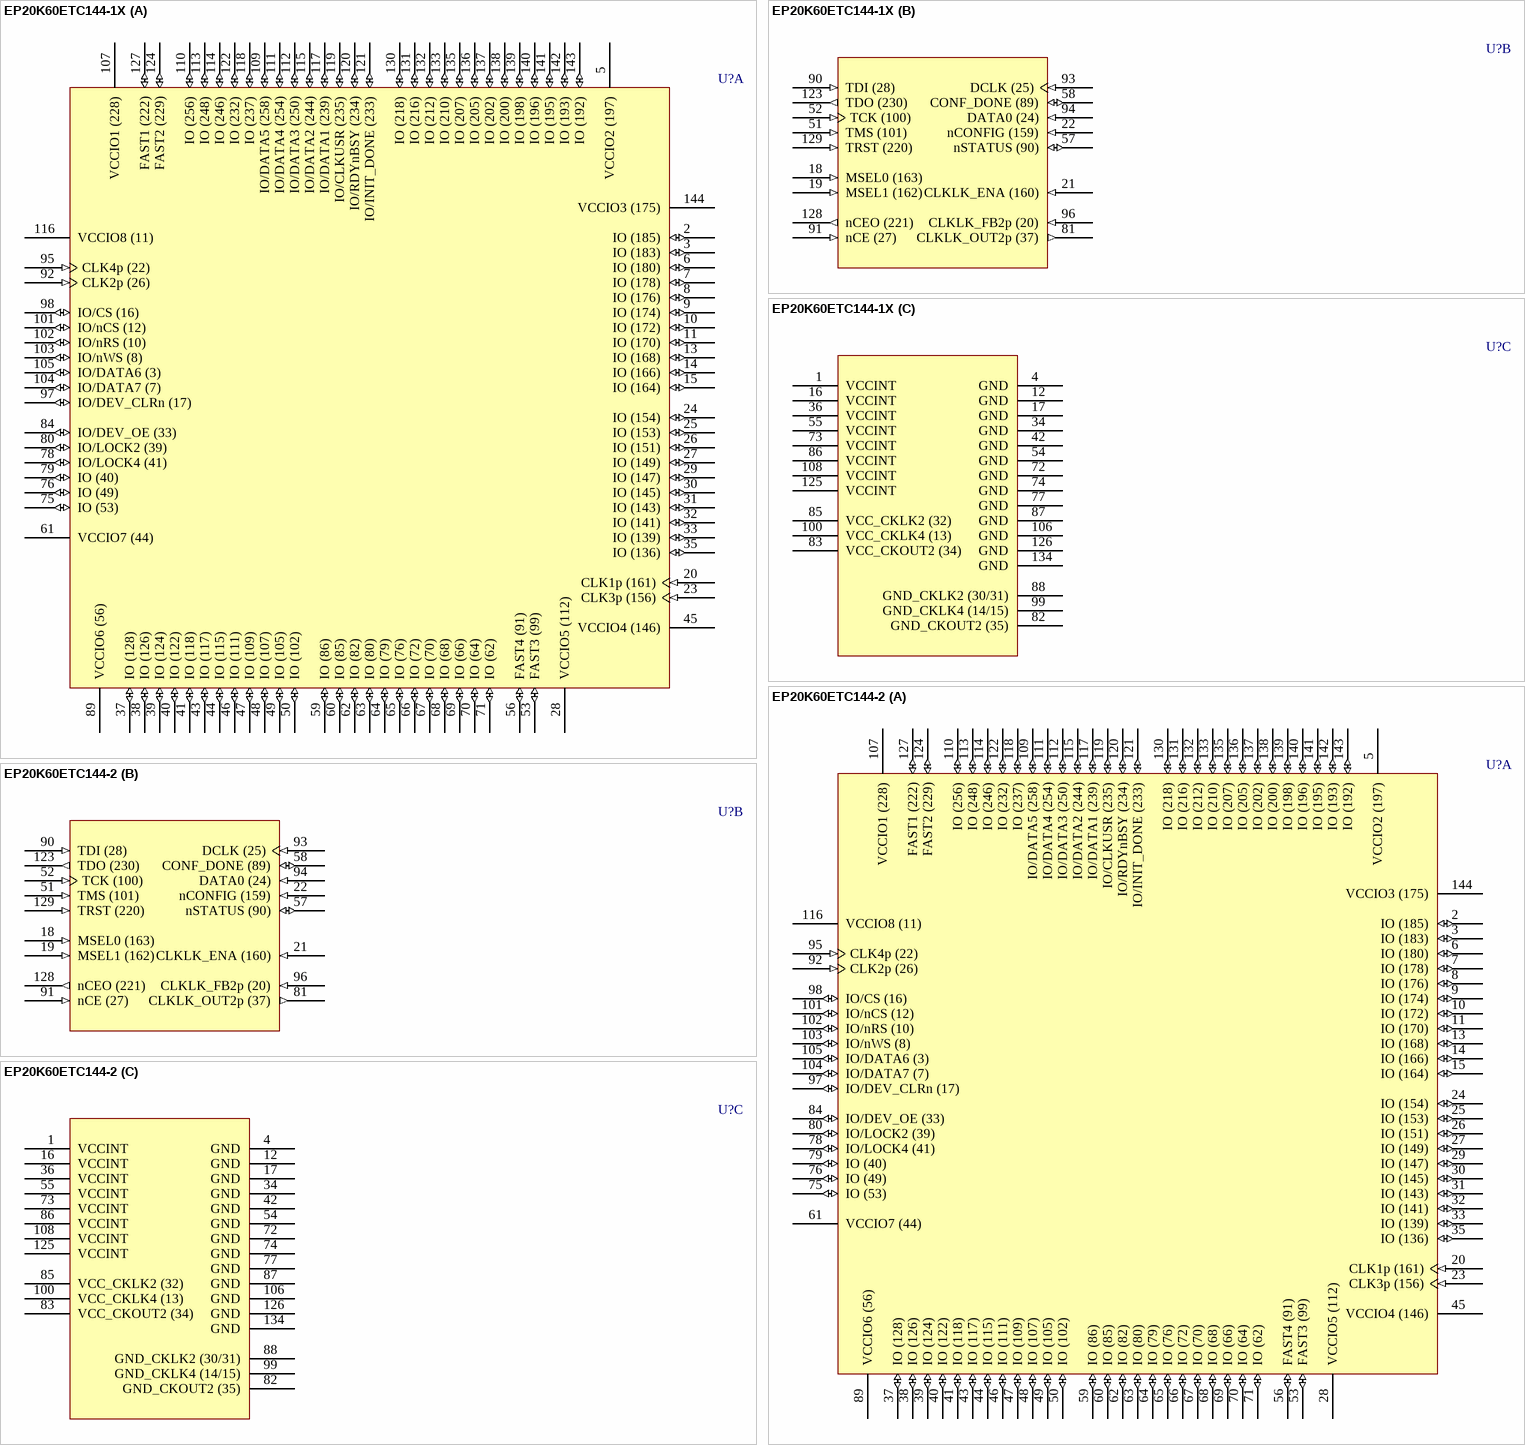
[diagram p64: symbols EP20K60ETC144-1X to EP20K60ETC144-2]

## EP20K60ETC144-1X
designator U?
APEX 20K60E PLD with PLLs and LVDS, 144-Pin TQFP, Commercial Grade, Speed Grade 1; Published: 17-Jul-2002; LatestRevisionDate: 13-Apr-2006; LatestRevisionNote: IPC-7351 Footprint Added.; DatasheetVersion: Mar-2004; PackageVersion: ver15.4, Dec-2008; PackageReference: TQFP144; Publisher: Altium Limited; PackageDescription: 144-Pin Plastic Thin Quad Flat Pack (TQFP144) - Wire Bond; Code_JEDEC: MS-026-BFB; ComponentLink1Description: Manufacturer Link; ComponentLink1URL: http://www.altera.com/products/devices/apex/apx-index.html; ComponentLink2Description: Datasheet; ComponentLink2URL: http://www.altera.com/literature/ds/apex.pdf
footprint TQFP144_N (Thin QFP, 144-Leads, Body 20x20mm, Pitch 0.5mm, IPC Medium Density)
footprint TQFP144_L (Thin QFP, 144-Leads, Body 20x20mm, Pitch 0.5mm, IPC High Density)
footprint TQFP144_M (Thin QFP, 144-Leads, Body 20x20mm, Pitch 0.5mm, IPC Low Density)
3D model EP20K60E-TQFP144 (144-Pin Plastic Thin Quad Flat Pack (TQFP144) - Wire Bond)
part A pins: 2 IO (185) (io), 3 IO (183) (io), 5 VCCIO2 (197) (power), 6 IO (180) (io), 7 IO (178) (io), 8 IO (176) (io), 9 IO (174) (io), 10 IO (172) (io), 11 IO (170) (io), 13 IO (168) (io), 14 IO (166) (io), 15 IO (164) (io), 20 CLK1p (161) (in), 23 CLK3p (156) (in), 24 IO (154) (io), 25 IO (153) (io), 26 IO (151) (io), 27 IO (149) (io), 28 VCCIO5 (112) (power), 29 IO (147) (io), 30 IO (145) (io), 31 IO (143) (io), 32 IO (141) (io), 33 IO (139) (io), 35 IO (136) (io), 37 IO (128) (io), 38 IO (126) (io), 39 IO (124) (io), 40 IO (122) (io), 41 IO (118) (io), 43 IO (117) (io), 44 IO (115) (io), 45 VCCIO4 (146) (power), 46 IO (111) (io), 47 IO (109) (io), 48 IO (107) (io), 49 IO (105) (io), 50 IO (102) (io), 53 FAST3 (99) (io), 56 FAST4 (91) (io), 59 IO (86) (io), 60 IO (85) (io), 61 VCCIO7 (44) (power), 62 IO (82) (io), 63 IO (80) (io), 64 IO (79) (io), 65 IO (76) (io), 66 IO (72) (io), 67 IO (70) (io), 68 IO (68) (io), 69 IO (66) (io), 70 IO (64) (io), 71 IO (62) (io), 75 IO (53) (io), 76 IO (49) (io), 78 IO/LOCK4 (41) (io), 79 IO (40) (io), 80 IO/LOCK2 (39) (io), 84 IO/DEV_OE (33) (io), 89 VCCIO6 (56) (power), 92 CLK2p (26) (in), 95 CLK4p (22) (in), 97 IO/DEV_CLRn (17) (io), 98 IO/CS (16) (io), 101 IO/nCS (12) (io), 102 IO/nRS (10) (io), 103 IO/nWS (8) (io), 104 IO/DATA7 (7) (io), 105 IO/DATA6 (3) (io), 107 VCCIO1 (228) (power), 109 IO/DATA5 (258) (io), 110 IO (256) (io), 111 IO/DATA4 (254) (io), 112 IO/DATA3 (250) (io), 113 IO (248) (io), 114 IO (246) (io), 115 IO/DATA2 (244) (io), 116 VCCIO8 (11) (power), 117 IO/DATA1 (239) (io), 118 IO (237) (io), 119 IO/CLKUSR (235) (io), 120 IO/RDYnBSY (234) (io), 121 IO/INIT_DONE (233) (io), 122 IO (232) (io), 124 FAST2 (229) (io), 127 FAST1 (222) (io), 130 IO (218) (io), 131 IO (216) (io), 132 IO (212) (io), 133 IO (210) (io), 135 IO (207) (io), 136 IO (205) (io), 137 IO (202) (io), 138 IO (200) (io), 139 IO (198) (io), 140 IO (196) (io), 141 IO (195) (io), 142 IO (193) (io), 143 IO (192) (io), 144 VCCIO3 (175) (power)
part B pins: 18 MSEL0 (163) (in), 19 MSEL1 (162) (in), 21 CLKLK_ENA (160) (in), 22 nCONFIG (159) (in), 51 TMS (101) (in), 52 TCK (100) (in), 57 nSTATUS (90) (io), 58 CONF_DONE (89) (io), 81 CLKLK_OUT2p (37) (out), 90 TDI (28) (in), 91 nCE (27) (in), 93 DCLK (25) (in), 94 DATA0 (24) (in), 96 CLKLK_FB2p (20) (in), 123 TDO (230) (out), 128 nCEO (221) (out), 129 TRST (220) (in)
part C pins: 1 VCCINT (power), 4 GND (power), 12 GND (power), 16 VCCINT (power), 17 GND (power), 34 GND (power), 36 VCCINT (power), 42 GND (power), 54 GND (power), 55 VCCINT (power), 72 GND (power), 73 VCCINT (power), 74 GND (power), 77 GND (power), 82 GND_CKOUT2 (35) (power), 83 VCC_CKOUT2 (34) (power), 85 VCC_CKLK2 (32) (power), 86 VCCINT (power), 87 GND (power), 88 GND_CKLK2 (30/31) (power), 99 GND_CKLK4 (14/15) (power), 100 VCC_CKLK4 (13) (power), 106 GND (power), 108 VCCINT (power), 125 VCCINT (power), 126 GND (power), 134 GND (power)

## EP20K60ETC144-2
designator U?
APEX 20K60E PLD, 144-Pin TQFP, Commercial Grade, Speed Grade 2; Published: 17-Jul-2002; LatestRevisionDate: 13-Apr-2006; LatestRevisionNote: IPC-7351 Footprint Added.; DatasheetVersion: Mar-2004; PackageVersion: ver15.4, Dec-2008; PackageReference: TQFP144; Publisher: Altium Limited; PackageDescription: 144-Pin Plastic Thin Quad Flat Pack (TQFP144) - Wire Bond; Code_JEDEC: MS-026-BFB; ComponentLink1Description: Manufacturer Link; ComponentLink1URL: http://www.altera.com/products/devices/apex/apx-index.html; ComponentLink2Description: Datasheet; ComponentLink2URL: http://www.altera.com/literature/ds/apex.pdf
footprint TQFP144_N (Thin QFP, 144-Leads, Body 20x20mm, Pitch 0.5mm, IPC Medium Density)
footprint TQFP144_L (Thin QFP, 144-Leads, Body 20x20mm, Pitch 0.5mm, IPC High Density)
footprint TQFP144_M (Thin QFP, 144-Leads, Body 20x20mm, Pitch 0.5mm, IPC Low Density)
3D model EP20K60E-TQFP144 (144-Pin Plastic Thin Quad Flat Pack (TQFP144) - Wire Bond)
part A pins: 2 IO (185) (io), 3 IO (183) (io), 5 VCCIO2 (197) (power), 6 IO (180) (io), 7 IO (178) (io), 8 IO (176) (io), 9 IO (174) (io), 10 IO (172) (io), 11 IO (170) (io), 13 IO (168) (io), 14 IO (166) (io), 15 IO (164) (io), 20 CLK1p (161) (in), 23 CLK3p (156) (in), 24 IO (154) (io), 25 IO (153) (io), 26 IO (151) (io), 27 IO (149) (io), 28 VCCIO5 (112) (power), 29 IO (147) (io), 30 IO (145) (io), 31 IO (143) (io), 32 IO (141) (io), 33 IO (139) (io), 35 IO (136) (io), 37 IO (128) (io), 38 IO (126) (io), 39 IO (124) (io), 40 IO (122) (io), 41 IO (118) (io), 43 IO (117) (io), 44 IO (115) (io), 45 VCCIO4 (146) (power), 46 IO (111) (io), 47 IO (109) (io), 48 IO (107) (io), 49 IO (105) (io), 50 IO (102) (io), 53 FAST3 (99) (io), 56 FAST4 (91) (io), 59 IO (86) (io), 60 IO (85) (io), 61 VCCIO7 (44) (power), 62 IO (82) (io), 63 IO (80) (io), 64 IO (79) (io), 65 IO (76) (io), 66 IO (72) (io), 67 IO (70) (io), 68 IO (68) (io), 69 IO (66) (io), 70 IO (64) (io), 71 IO (62) (io), 75 IO (53) (io), 76 IO (49) (io), 78 IO/LOCK4 (41) (io), 79 IO (40) (io), 80 IO/LOCK2 (39) (io), 84 IO/DEV_OE (33) (io), 89 VCCIO6 (56) (power), 92 CLK2p (26) (in), 95 CLK4p (22) (in), 97 IO/DEV_CLRn (17) (io), 98 IO/CS (16) (io), 101 IO/nCS (12) (io), 102 IO/nRS (10) (io), 103 IO/nWS (8) (io), 104 IO/DATA7 (7) (io), 105 IO/DATA6 (3) (io), 107 VCCIO1 (228) (power), 109 IO/DATA5 (258) (io), 110 IO (256) (io), 111 IO/DATA4 (254) (io), 112 IO/DATA3 (250) (io), 113 IO (248) (io), 114 IO (246) (io), 115 IO/DATA2 (244) (io), 116 VCCIO8 (11) (power), 117 IO/DATA1 (239) (io), 118 IO (237) (io), 119 IO/CLKUSR (235) (io), 120 IO/RDYnBSY (234) (io), 121 IO/INIT_DONE (233) (io), 122 IO (232) (io), 124 FAST2 (229) (io), 127 FAST1 (222) (io), 130 IO (218) (io), 131 IO (216) (io), 132 IO (212) (io), 133 IO (210) (io), 135 IO (207) (io), 136 IO (205) (io), 137 IO (202) (io), 138 IO (200) (io), 139 IO (198) (io), 140 IO (196) (io), 141 IO (195) (io), 142 IO (193) (io), 143 IO (192) (io), 144 VCCIO3 (175) (power)
part B pins: 18 MSEL0 (163) (in), 19 MSEL1 (162) (in), 21 CLKLK_ENA (160) (in), 22 nCONFIG (159) (in), 51 TMS (101) (in), 52 TCK (100) (in), 57 nSTATUS (90) (io), 58 CONF_DONE (89) (io), 81 CLKLK_OUT2p (37) (out), 90 TDI (28) (in), 91 nCE (27) (in), 93 DCLK (25) (in), 94 DATA0 (24) (in), 96 CLKLK_FB2p (20) (in), 123 TDO (230) (out), 128 nCEO (221) (out), 129 TRST (220) (in)
part C pins: 1 VCCINT (power), 4 GND (power), 12 GND (power), 16 VCCINT (power), 17 GND (power), 34 GND (power), 36 VCCINT (power), 42 GND (power), 54 GND (power), 55 VCCINT (power), 72 GND (power), 73 VCCINT (power), 74 GND (power), 77 GND (power), 82 GND_CKOUT2 (35) (power), 83 VCC_CKOUT2 (34) (power), 85 VCC_CKLK2 (32) (power), 86 VCCINT (power), 87 GND (power), 88 GND_CKLK2 (30/31) (power), 99 GND_CKLK4 (14/15) (power), 100 VCC_CKLK4 (13) (power), 106 GND (power), 108 VCCINT (power), 125 VCCINT (power), 126 GND (power), 134 GND (power)

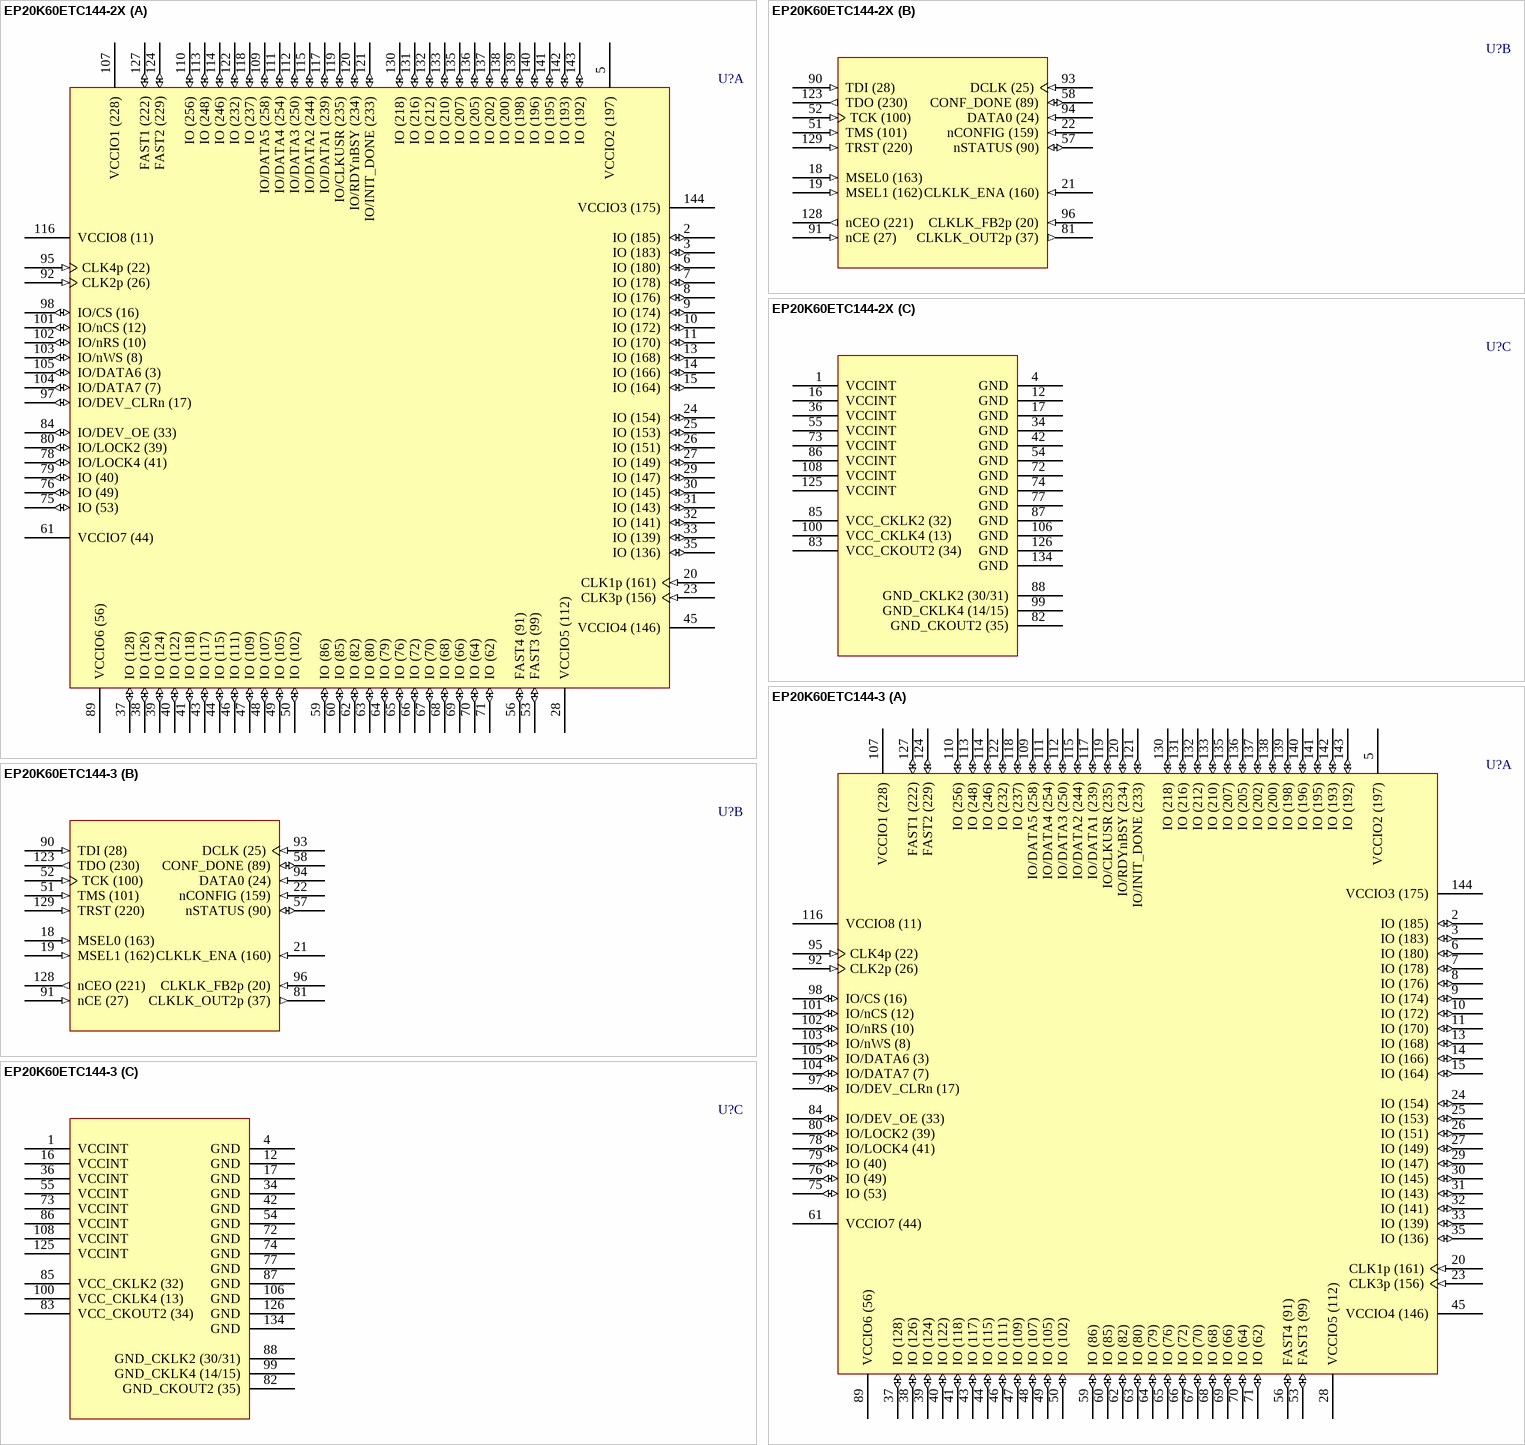
[diagram p65: symbols EP20K60ETC144-2X to EP20K60ETC144-3]

## EP20K60ETC144-2X
designator U?
APEX 20K60E PLD with PLLs and LVDS, 144-Pin TQFP, Commercial Grade, Speed Grade 2; Published: 17-Jul-2002; LatestRevisionDate: 13-Apr-2006; LatestRevisionNote: IPC-7351 Footprint Added.; DatasheetVersion: Mar-2004; PackageVersion: ver15.4, Dec-2008; PackageReference: TQFP144; Publisher: Altium Limited; PackageDescription: 144-Pin Plastic Thin Quad Flat Pack (TQFP144) - Wire Bond; Code_JEDEC: MS-026-BFB; ComponentLink1Description: Manufacturer Link; ComponentLink1URL: http://www.altera.com/products/devices/apex/apx-index.html; ComponentLink2Description: Datasheet; ComponentLink2URL: http://www.altera.com/literature/ds/apex.pdf
footprint TQFP144_N (Thin QFP, 144-Leads, Body 20x20mm, Pitch 0.5mm, IPC Medium Density)
footprint TQFP144_L (Thin QFP, 144-Leads, Body 20x20mm, Pitch 0.5mm, IPC High Density)
footprint TQFP144_M (Thin QFP, 144-Leads, Body 20x20mm, Pitch 0.5mm, IPC Low Density)
3D model EP20K60E-TQFP144 (144-Pin Plastic Thin Quad Flat Pack (TQFP144) - Wire Bond)
part A pins: 2 IO (185) (io), 3 IO (183) (io), 5 VCCIO2 (197) (power), 6 IO (180) (io), 7 IO (178) (io), 8 IO (176) (io), 9 IO (174) (io), 10 IO (172) (io), 11 IO (170) (io), 13 IO (168) (io), 14 IO (166) (io), 15 IO (164) (io), 20 CLK1p (161) (in), 23 CLK3p (156) (in), 24 IO (154) (io), 25 IO (153) (io), 26 IO (151) (io), 27 IO (149) (io), 28 VCCIO5 (112) (power), 29 IO (147) (io), 30 IO (145) (io), 31 IO (143) (io), 32 IO (141) (io), 33 IO (139) (io), 35 IO (136) (io), 37 IO (128) (io), 38 IO (126) (io), 39 IO (124) (io), 40 IO (122) (io), 41 IO (118) (io), 43 IO (117) (io), 44 IO (115) (io), 45 VCCIO4 (146) (power), 46 IO (111) (io), 47 IO (109) (io), 48 IO (107) (io), 49 IO (105) (io), 50 IO (102) (io), 53 FAST3 (99) (io), 56 FAST4 (91) (io), 59 IO (86) (io), 60 IO (85) (io), 61 VCCIO7 (44) (power), 62 IO (82) (io), 63 IO (80) (io), 64 IO (79) (io), 65 IO (76) (io), 66 IO (72) (io), 67 IO (70) (io), 68 IO (68) (io), 69 IO (66) (io), 70 IO (64) (io), 71 IO (62) (io), 75 IO (53) (io), 76 IO (49) (io), 78 IO/LOCK4 (41) (io), 79 IO (40) (io), 80 IO/LOCK2 (39) (io), 84 IO/DEV_OE (33) (io), 89 VCCIO6 (56) (power), 92 CLK2p (26) (in), 95 CLK4p (22) (in), 97 IO/DEV_CLRn (17) (io), 98 IO/CS (16) (io), 101 IO/nCS (12) (io), 102 IO/nRS (10) (io), 103 IO/nWS (8) (io), 104 IO/DATA7 (7) (io), 105 IO/DATA6 (3) (io), 107 VCCIO1 (228) (power), 109 IO/DATA5 (258) (io), 110 IO (256) (io), 111 IO/DATA4 (254) (io), 112 IO/DATA3 (250) (io), 113 IO (248) (io), 114 IO (246) (io), 115 IO/DATA2 (244) (io), 116 VCCIO8 (11) (power), 117 IO/DATA1 (239) (io), 118 IO (237) (io), 119 IO/CLKUSR (235) (io), 120 IO/RDYnBSY (234) (io), 121 IO/INIT_DONE (233) (io), 122 IO (232) (io), 124 FAST2 (229) (io), 127 FAST1 (222) (io), 130 IO (218) (io), 131 IO (216) (io), 132 IO (212) (io), 133 IO (210) (io), 135 IO (207) (io), 136 IO (205) (io), 137 IO (202) (io), 138 IO (200) (io), 139 IO (198) (io), 140 IO (196) (io), 141 IO (195) (io), 142 IO (193) (io), 143 IO (192) (io), 144 VCCIO3 (175) (power)
part B pins: 18 MSEL0 (163) (in), 19 MSEL1 (162) (in), 21 CLKLK_ENA (160) (in), 22 nCONFIG (159) (in), 51 TMS (101) (in), 52 TCK (100) (in), 57 nSTATUS (90) (io), 58 CONF_DONE (89) (io), 81 CLKLK_OUT2p (37) (out), 90 TDI (28) (in), 91 nCE (27) (in), 93 DCLK (25) (in), 94 DATA0 (24) (in), 96 CLKLK_FB2p (20) (in), 123 TDO (230) (out), 128 nCEO (221) (out), 129 TRST (220) (in)
part C pins: 1 VCCINT (power), 4 GND (power), 12 GND (power), 16 VCCINT (power), 17 GND (power), 34 GND (power), 36 VCCINT (power), 42 GND (power), 54 GND (power), 55 VCCINT (power), 72 GND (power), 73 VCCINT (power), 74 GND (power), 77 GND (power), 82 GND_CKOUT2 (35) (power), 83 VCC_CKOUT2 (34) (power), 85 VCC_CKLK2 (32) (power), 86 VCCINT (power), 87 GND (power), 88 GND_CKLK2 (30/31) (power), 99 GND_CKLK4 (14/15) (power), 100 VCC_CKLK4 (13) (power), 106 GND (power), 108 VCCINT (power), 125 VCCINT (power), 126 GND (power), 134 GND (power)